# Altium integrated library SparkFun-Switches.Library.IntLib: 119 symbols (part 3 of 4)
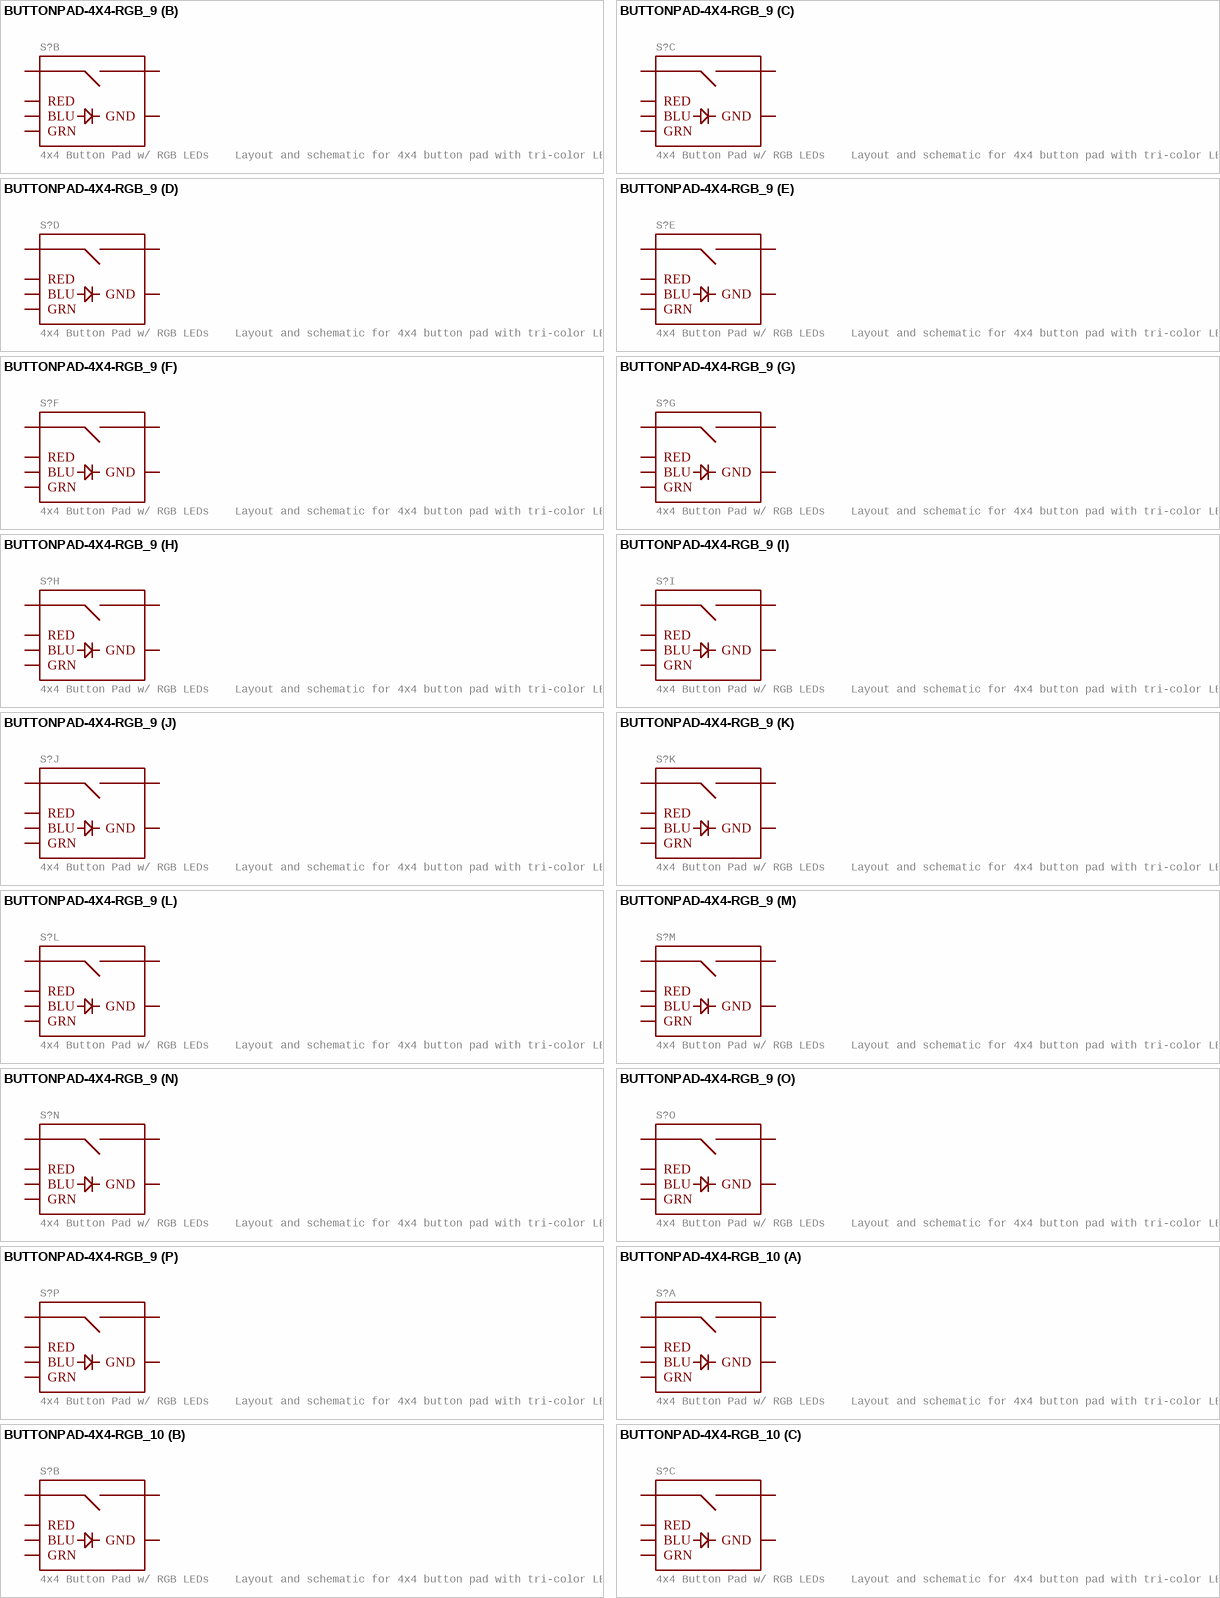
[diagram p37: symbols BUTTONPAD-4X4-RGB_9 to BUTTONPAD-4X4-RGB_10]

## BUTTONPAD-4X4-RGB_9
designator S?, comment 4x4 Button Pad w/ RGB LEDs    Layout and schematic for 4x4 button pad with tri-color LEDs under each button. For use with the 4x Button Pad 2x2 - LED Compatible and 4x Button Pad 2x2 Top Bezel.   Any RGB 5mm LED should be compatible. SparkFun Products  SparkFun Simon Says - Through-Hole Soldering Kit (KIT-10547)  Button Pad 2x2 - Breakout PCB (COM-09277)
GateName_1: G$0; SymbolName_1: BUTTONPAD-RGB; GateName_2: G$1; GateName_3: G$2; GateName_4: G$3; GateName_5: G$4; GateName_6: G$5; GateName_7: G$6; GateName_8: G$7; GateName_9: G$8; GateName_10: G$9; GateName_11: G$10; GateName_12: G$11; GateName_13: G$12; GateName_14: G$13; GateName_15: G$14; GateName_16: G$15; DeviceSetName: BUTTONPAD-4X4-RGB; PROD_ID: COMP-08481; SF_SKU: COM-07836; SymbolName_2: BUTTONPAD-RGB; SymbolName_3: BUTTONPAD-RGB; SymbolName_4: BUTTONPAD-RGB; SymbolName_5: BUTTONPAD-RGB; SymbolName_6: BUTTONPAD-RGB; SymbolName_7: BUTTONPAD-RGB; SymbolName_8: BUTTONPAD-RGB; SymbolName_9: BUTTONPAD-RGB; SymbolName_10: BUTTONPAD-RGB; SymbolName_11: BUTTONPAD-RGB; SymbolName_12: BUTTONPAD-RGB; SymbolName_13: BUTTONPAD-RGB; SymbolName_14: BUTTONPAD-RGB; SymbolName_15: BUTTONPAD-RGB; SymbolName_16: BUTTONPAD-RGB; LibraryName: SparkFun-Switches; Package: BUTTONPAD-4X4
footprint BUTTONPAD-4X4
part A pins: BLU0 BLU (io), GND0 GND (io), GRN0 GRN (io), RED0 RED (io), SIG0 SIG1 (io), SIG1 SIG2 (io)
part B pins: BLU1 BLU (io), GND1 GND (io), GRN1 GRN (io), RED1 RED (io), SIG2 SIG1 (io), SIG3 SIG2 (io)
part C pins: BLU2 BLU (io), GND2 GND (io), GRN2 GRN (io), RED2 RED (io), SIG4 SIG1 (io), SIG5 SIG2 (io)
part D pins: BLU3 BLU (io), GND3 GND (io), GRN3 GRN (io), RED3 RED (io), SIG6 SIG1 (io), SIG7 SIG2 (io)
part E pins: BLU4 BLU (io), GND4 GND (io), GRN4 GRN (io), RED4 RED (io), SIG8 SIG1 (io), SIG9 SIG2 (io)
part F pins: BLU5 BLU (io), GND5 GND (io), GRN6 GRN (io), RED5 RED (io), SIG10 SIG1 (io), SIG11 SIG2 (io)
part G pins: BLU6 BLU (io), GND6 GND (io), GRN5 GRN (io), RED6 RED (io), SIG12 SIG1 (io), SIG13 SIG2 (io)
part H pins: BLU7 BLU (io), GND7 GND (io), GRN7 GRN (io), RED7 RED (io), SIG14 SIG1 (io), SIG15 SIG2 (io)
part I pins: BLU8 BLU (io), GND8 GND (io), GRN8 GRN (io), RED8 RED (io), SIG16 SIG1 (io), SIG17 SIG2 (io)
part J pins: BLU9 BLU (io), GND9 GND (io), GRN9 GRN (io), RED9 RED (io), SIG18 SIG1 (io), SIG19 SIG2 (io)
part K pins: BLU10 BLU (io), GND10 GND (io), GRN10 GRN (io), RED10 RED (io), SIG20 SIG1 (io), SIG21 SIG2 (io)
part L pins: BLU11 BLU (io), GND11 GND (io), GRN11 GRN (io), RED11 RED (io), SIG22 SIG1 (io), SIG23 SIG2 (io)
part M pins: BLU12 BLU (io), GND12 GND (io), GRN12 GRN (io), RED12 RED (io), SIG24 SIG1 (io), SIG25 SIG2 (io)
part N pins: BLU13 BLU (io), GND13 GND (io), GRN13 GRN (io), RED13 RED (io), SIG26 SIG1 (io), SIG27 SIG2 (io)
part O pins: BLU14 BLU (io), GND14 GND (io), GRN14 GRN (io), RED14 RED (io), SIG28 SIG1 (io), SIG29 SIG2 (io)
part P pins: BLU15 BLU (io), GND15 GND (io), GRN15 GRN (io), RED15 RED (io), SIG30 SIG1 (io), SIG31 SIG2 (io)

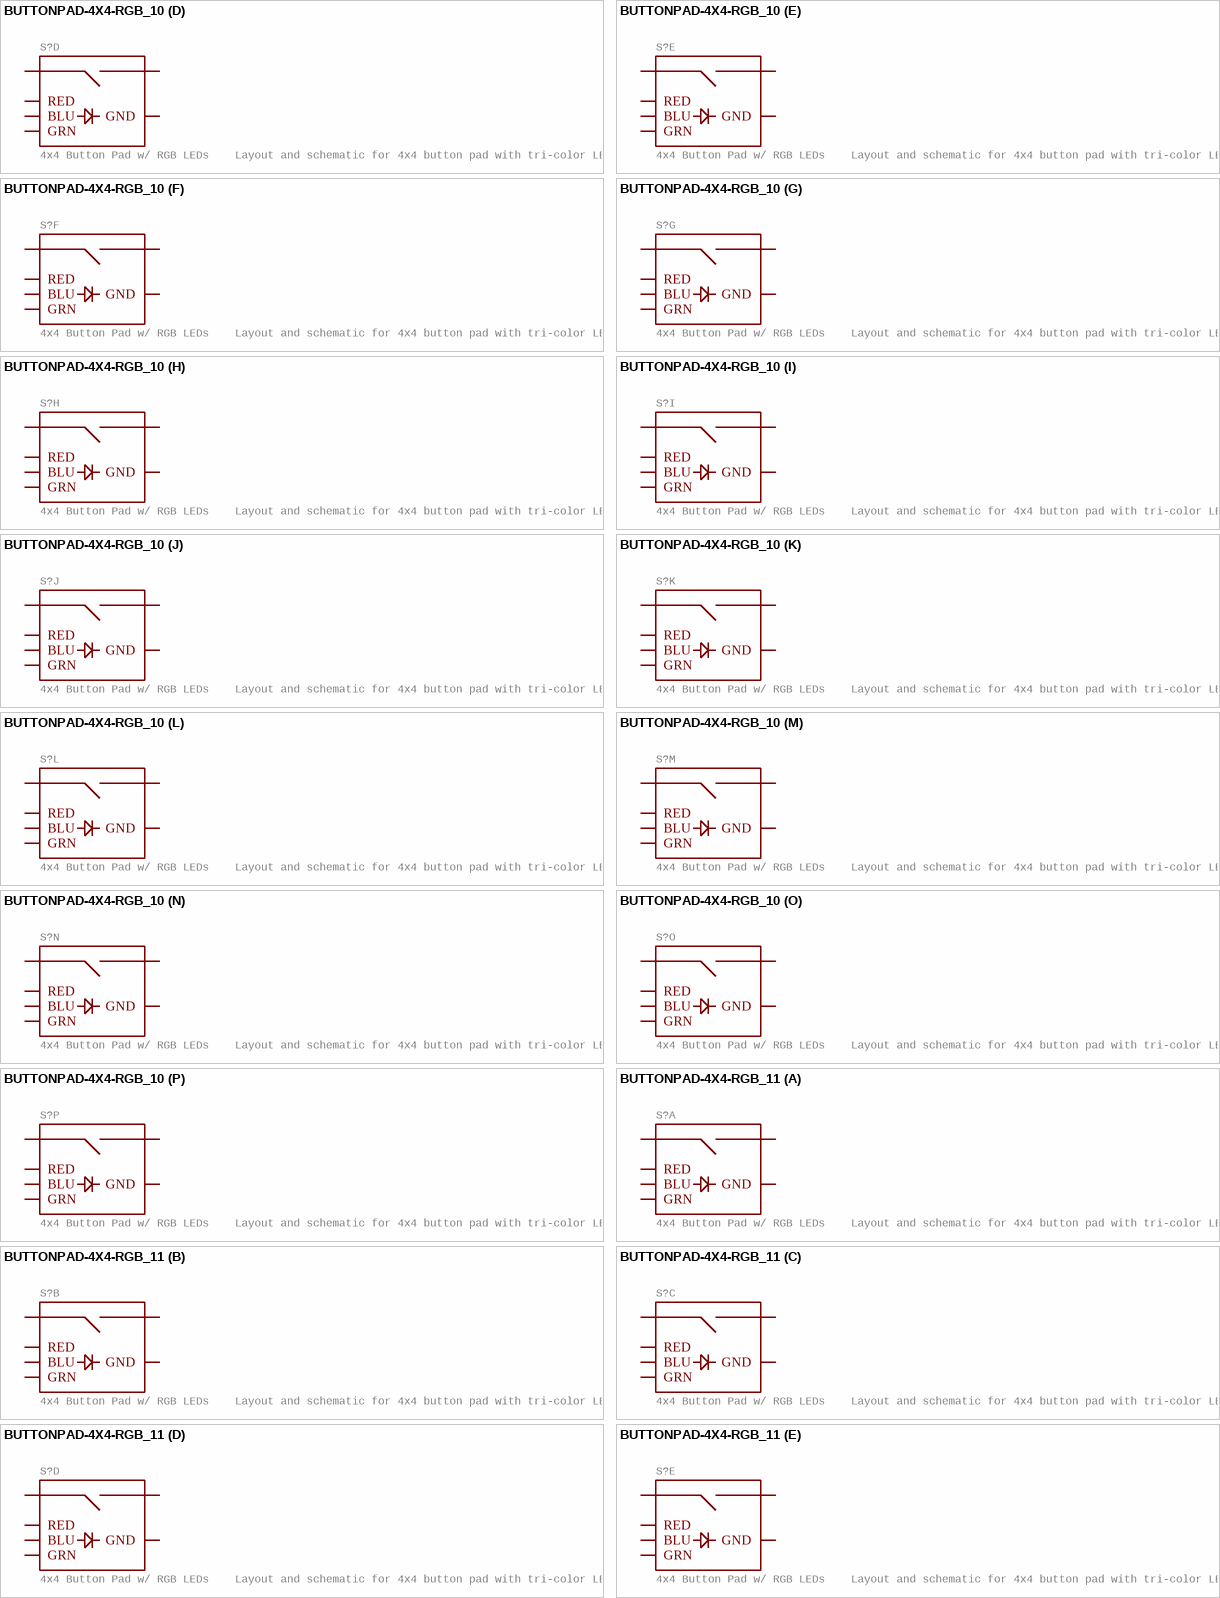
[diagram p27: symbols BUTTONPAD-4X4-RGB_10 to BUTTONPAD-4X4-RGB_11]

## BUTTONPAD-4X4-RGB_10
designator S?, comment 4x4 Button Pad w/ RGB LEDs    Layout and schematic for 4x4 button pad with tri-color LEDs under each button. For use with the 4x Button Pad 2x2 - LED Compatible and 4x Button Pad 2x2 Top Bezel.   Any RGB 5mm LED should be compatible. SparkFun Products  SparkFun Simon Says - Through-Hole Soldering Kit (KIT-10547)  Button Pad 2x2 - Breakout PCB (COM-09277)
GateName_1: G$0; SymbolName_1: BUTTONPAD-RGB; GateName_2: G$1; GateName_3: G$2; GateName_4: G$3; GateName_5: G$4; GateName_6: G$5; GateName_7: G$6; GateName_8: G$7; GateName_9: G$8; GateName_10: G$9; GateName_11: G$10; GateName_12: G$11; GateName_13: G$12; GateName_14: G$13; GateName_15: G$14; GateName_16: G$15; DeviceSetName: BUTTONPAD-4X4-RGB; PROD_ID: COMP-08481; SF_SKU: COM-07836; SymbolName_2: BUTTONPAD-RGB; SymbolName_3: BUTTONPAD-RGB; SymbolName_4: BUTTONPAD-RGB; SymbolName_5: BUTTONPAD-RGB; SymbolName_6: BUTTONPAD-RGB; SymbolName_7: BUTTONPAD-RGB; SymbolName_8: BUTTONPAD-RGB; SymbolName_9: BUTTONPAD-RGB; SymbolName_10: BUTTONPAD-RGB; SymbolName_11: BUTTONPAD-RGB; SymbolName_12: BUTTONPAD-RGB; SymbolName_13: BUTTONPAD-RGB; SymbolName_14: BUTTONPAD-RGB; SymbolName_15: BUTTONPAD-RGB; SymbolName_16: BUTTONPAD-RGB; LibraryName: SparkFun-Switches; Package: BUTTONPAD-4X4
footprint BUTTONPAD-4X4
part A pins: BLU0 BLU (io), GND0 GND (io), GRN0 GRN (io), RED0 RED (io), SIG0 SIG1 (io), SIG1 SIG2 (io)
part B pins: BLU1 BLU (io), GND1 GND (io), GRN1 GRN (io), RED1 RED (io), SIG2 SIG1 (io), SIG3 SIG2 (io)
part C pins: BLU2 BLU (io), GND2 GND (io), GRN2 GRN (io), RED2 RED (io), SIG4 SIG1 (io), SIG5 SIG2 (io)
part D pins: BLU3 BLU (io), GND3 GND (io), GRN3 GRN (io), RED3 RED (io), SIG6 SIG1 (io), SIG7 SIG2 (io)
part E pins: BLU4 BLU (io), GND4 GND (io), GRN4 GRN (io), RED4 RED (io), SIG8 SIG1 (io), SIG9 SIG2 (io)
part F pins: BLU5 BLU (io), GND5 GND (io), GRN6 GRN (io), RED5 RED (io), SIG10 SIG1 (io), SIG11 SIG2 (io)
part G pins: BLU6 BLU (io), GND6 GND (io), GRN5 GRN (io), RED6 RED (io), SIG12 SIG1 (io), SIG13 SIG2 (io)
part H pins: BLU7 BLU (io), GND7 GND (io), GRN7 GRN (io), RED7 RED (io), SIG14 SIG1 (io), SIG15 SIG2 (io)
part I pins: BLU8 BLU (io), GND8 GND (io), GRN8 GRN (io), RED8 RED (io), SIG16 SIG1 (io), SIG17 SIG2 (io)
part J pins: BLU9 BLU (io), GND9 GND (io), GRN9 GRN (io), RED9 RED (io), SIG18 SIG1 (io), SIG19 SIG2 (io)
part K pins: BLU10 BLU (io), GND10 GND (io), GRN10 GRN (io), RED10 RED (io), SIG20 SIG1 (io), SIG21 SIG2 (io)
part L pins: BLU11 BLU (io), GND11 GND (io), GRN11 GRN (io), RED11 RED (io), SIG22 SIG1 (io), SIG23 SIG2 (io)
part M pins: BLU12 BLU (io), GND12 GND (io), GRN12 GRN (io), RED12 RED (io), SIG24 SIG1 (io), SIG25 SIG2 (io)
part N pins: BLU13 BLU (io), GND13 GND (io), GRN13 GRN (io), RED13 RED (io), SIG26 SIG1 (io), SIG27 SIG2 (io)
part O pins: BLU14 BLU (io), GND14 GND (io), GRN14 GRN (io), RED14 RED (io), SIG28 SIG1 (io), SIG29 SIG2 (io)
part P pins: BLU15 BLU (io), GND15 GND (io), GRN15 GRN (io), RED15 RED (io), SIG30 SIG1 (io), SIG31 SIG2 (io)

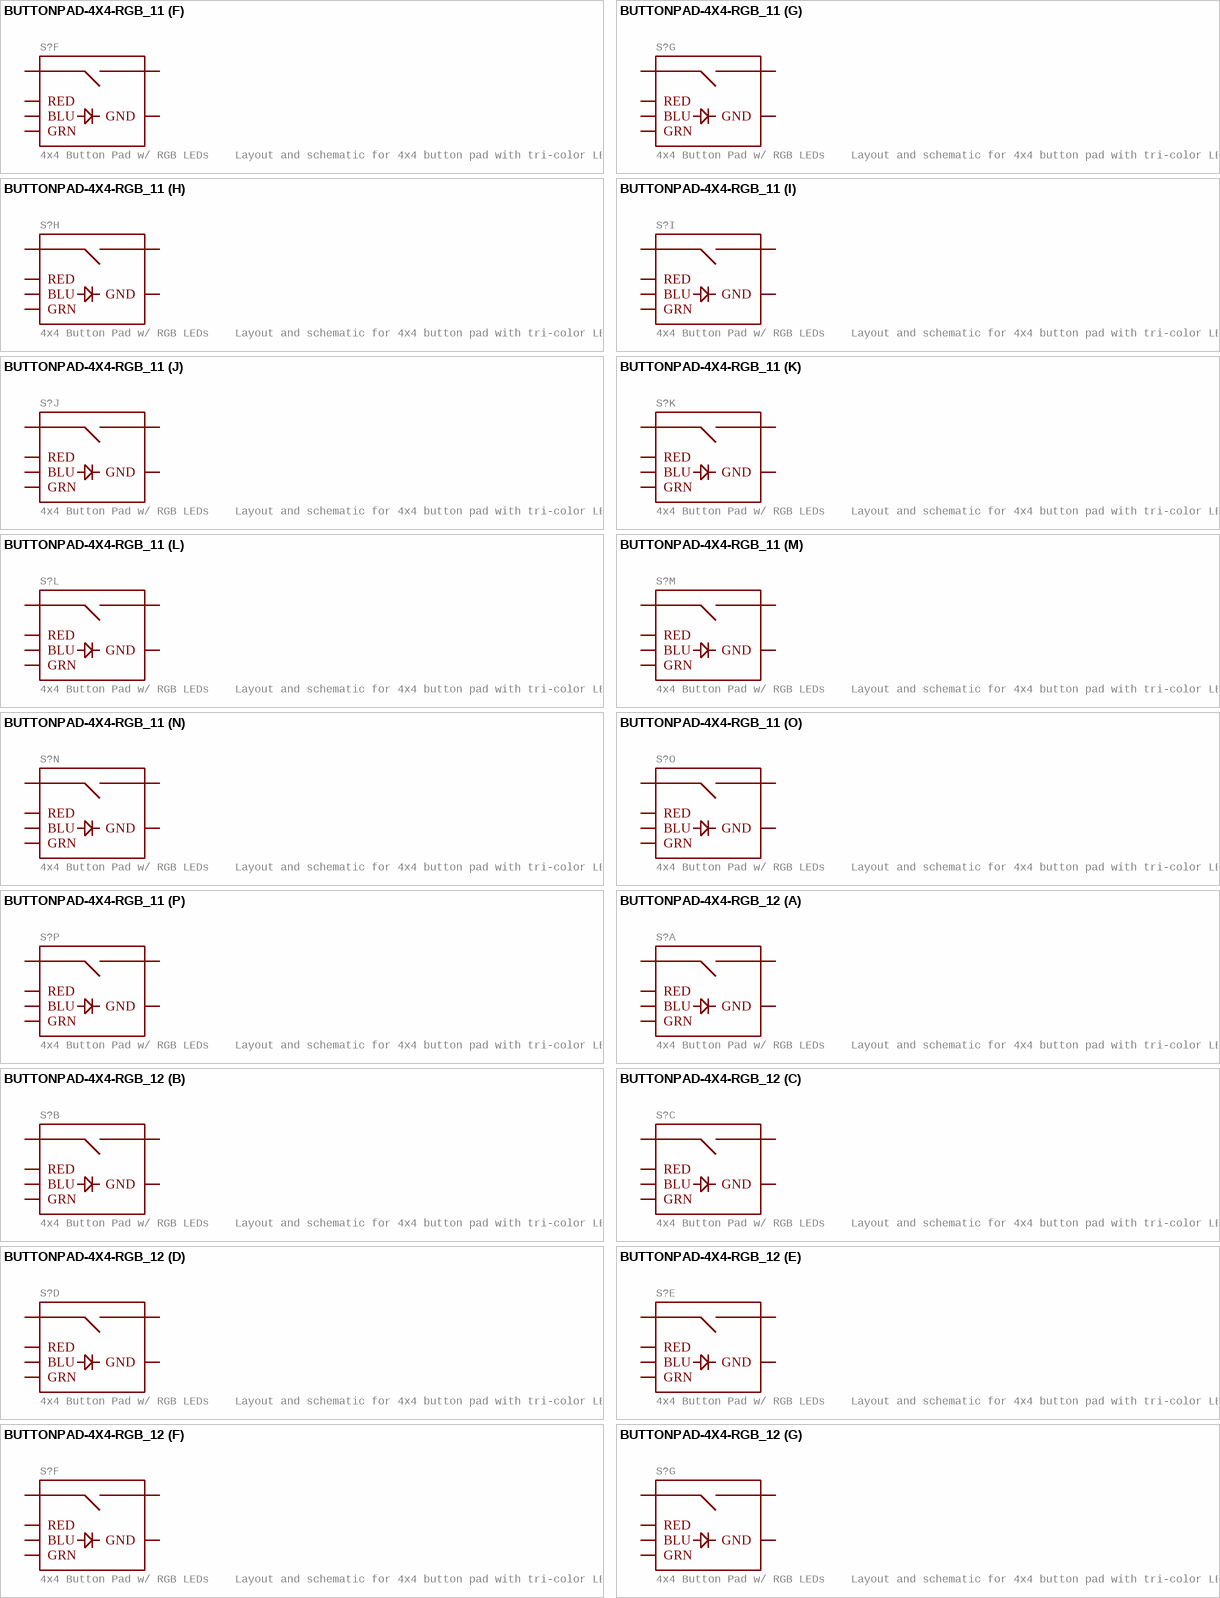
[diagram p28: symbols BUTTONPAD-4X4-RGB_11 to BUTTONPAD-4X4-RGB_12]

## BUTTONPAD-4X4-RGB_11
designator S?, comment 4x4 Button Pad w/ RGB LEDs    Layout and schematic for 4x4 button pad with tri-color LEDs under each button. For use with the 4x Button Pad 2x2 - LED Compatible and 4x Button Pad 2x2 Top Bezel.   Any RGB 5mm LED should be compatible. SparkFun Products  SparkFun Simon Says - Through-Hole Soldering Kit (KIT-10547)  Button Pad 2x2 - Breakout PCB (COM-09277)
GateName_1: G$0; SymbolName_1: BUTTONPAD-RGB; GateName_2: G$1; GateName_3: G$2; GateName_4: G$3; GateName_5: G$4; GateName_6: G$5; GateName_7: G$6; GateName_8: G$7; GateName_9: G$8; GateName_10: G$9; GateName_11: G$10; GateName_12: G$11; GateName_13: G$12; GateName_14: G$13; GateName_15: G$14; GateName_16: G$15; DeviceSetName: BUTTONPAD-4X4-RGB; PROD_ID: COMP-08481; SF_SKU: COM-07836; SymbolName_2: BUTTONPAD-RGB; SymbolName_3: BUTTONPAD-RGB; SymbolName_4: BUTTONPAD-RGB; SymbolName_5: BUTTONPAD-RGB; SymbolName_6: BUTTONPAD-RGB; SymbolName_7: BUTTONPAD-RGB; SymbolName_8: BUTTONPAD-RGB; SymbolName_9: BUTTONPAD-RGB; SymbolName_10: BUTTONPAD-RGB; SymbolName_11: BUTTONPAD-RGB; SymbolName_12: BUTTONPAD-RGB; SymbolName_13: BUTTONPAD-RGB; SymbolName_14: BUTTONPAD-RGB; SymbolName_15: BUTTONPAD-RGB; SymbolName_16: BUTTONPAD-RGB; LibraryName: SparkFun-Switches; Package: BUTTONPAD-4X4
footprint BUTTONPAD-4X4
part A pins: BLU0 BLU (io), GND0 GND (io), GRN0 GRN (io), RED0 RED (io), SIG0 SIG1 (io), SIG1 SIG2 (io)
part B pins: BLU1 BLU (io), GND1 GND (io), GRN1 GRN (io), RED1 RED (io), SIG2 SIG1 (io), SIG3 SIG2 (io)
part C pins: BLU2 BLU (io), GND2 GND (io), GRN2 GRN (io), RED2 RED (io), SIG4 SIG1 (io), SIG5 SIG2 (io)
part D pins: BLU3 BLU (io), GND3 GND (io), GRN3 GRN (io), RED3 RED (io), SIG6 SIG1 (io), SIG7 SIG2 (io)
part E pins: BLU4 BLU (io), GND4 GND (io), GRN4 GRN (io), RED4 RED (io), SIG8 SIG1 (io), SIG9 SIG2 (io)
part F pins: BLU5 BLU (io), GND5 GND (io), GRN6 GRN (io), RED5 RED (io), SIG10 SIG1 (io), SIG11 SIG2 (io)
part G pins: BLU6 BLU (io), GND6 GND (io), GRN5 GRN (io), RED6 RED (io), SIG12 SIG1 (io), SIG13 SIG2 (io)
part H pins: BLU7 BLU (io), GND7 GND (io), GRN7 GRN (io), RED7 RED (io), SIG14 SIG1 (io), SIG15 SIG2 (io)
part I pins: BLU8 BLU (io), GND8 GND (io), GRN8 GRN (io), RED8 RED (io), SIG16 SIG1 (io), SIG17 SIG2 (io)
part J pins: BLU9 BLU (io), GND9 GND (io), GRN9 GRN (io), RED9 RED (io), SIG18 SIG1 (io), SIG19 SIG2 (io)
part K pins: BLU10 BLU (io), GND10 GND (io), GRN10 GRN (io), RED10 RED (io), SIG20 SIG1 (io), SIG21 SIG2 (io)
part L pins: BLU11 BLU (io), GND11 GND (io), GRN11 GRN (io), RED11 RED (io), SIG22 SIG1 (io), SIG23 SIG2 (io)
part M pins: BLU12 BLU (io), GND12 GND (io), GRN12 GRN (io), RED12 RED (io), SIG24 SIG1 (io), SIG25 SIG2 (io)
part N pins: BLU13 BLU (io), GND13 GND (io), GRN13 GRN (io), RED13 RED (io), SIG26 SIG1 (io), SIG27 SIG2 (io)
part O pins: BLU14 BLU (io), GND14 GND (io), GRN14 GRN (io), RED14 RED (io), SIG28 SIG1 (io), SIG29 SIG2 (io)
part P pins: BLU15 BLU (io), GND15 GND (io), GRN15 GRN (io), RED15 RED (io), SIG30 SIG1 (io), SIG31 SIG2 (io)

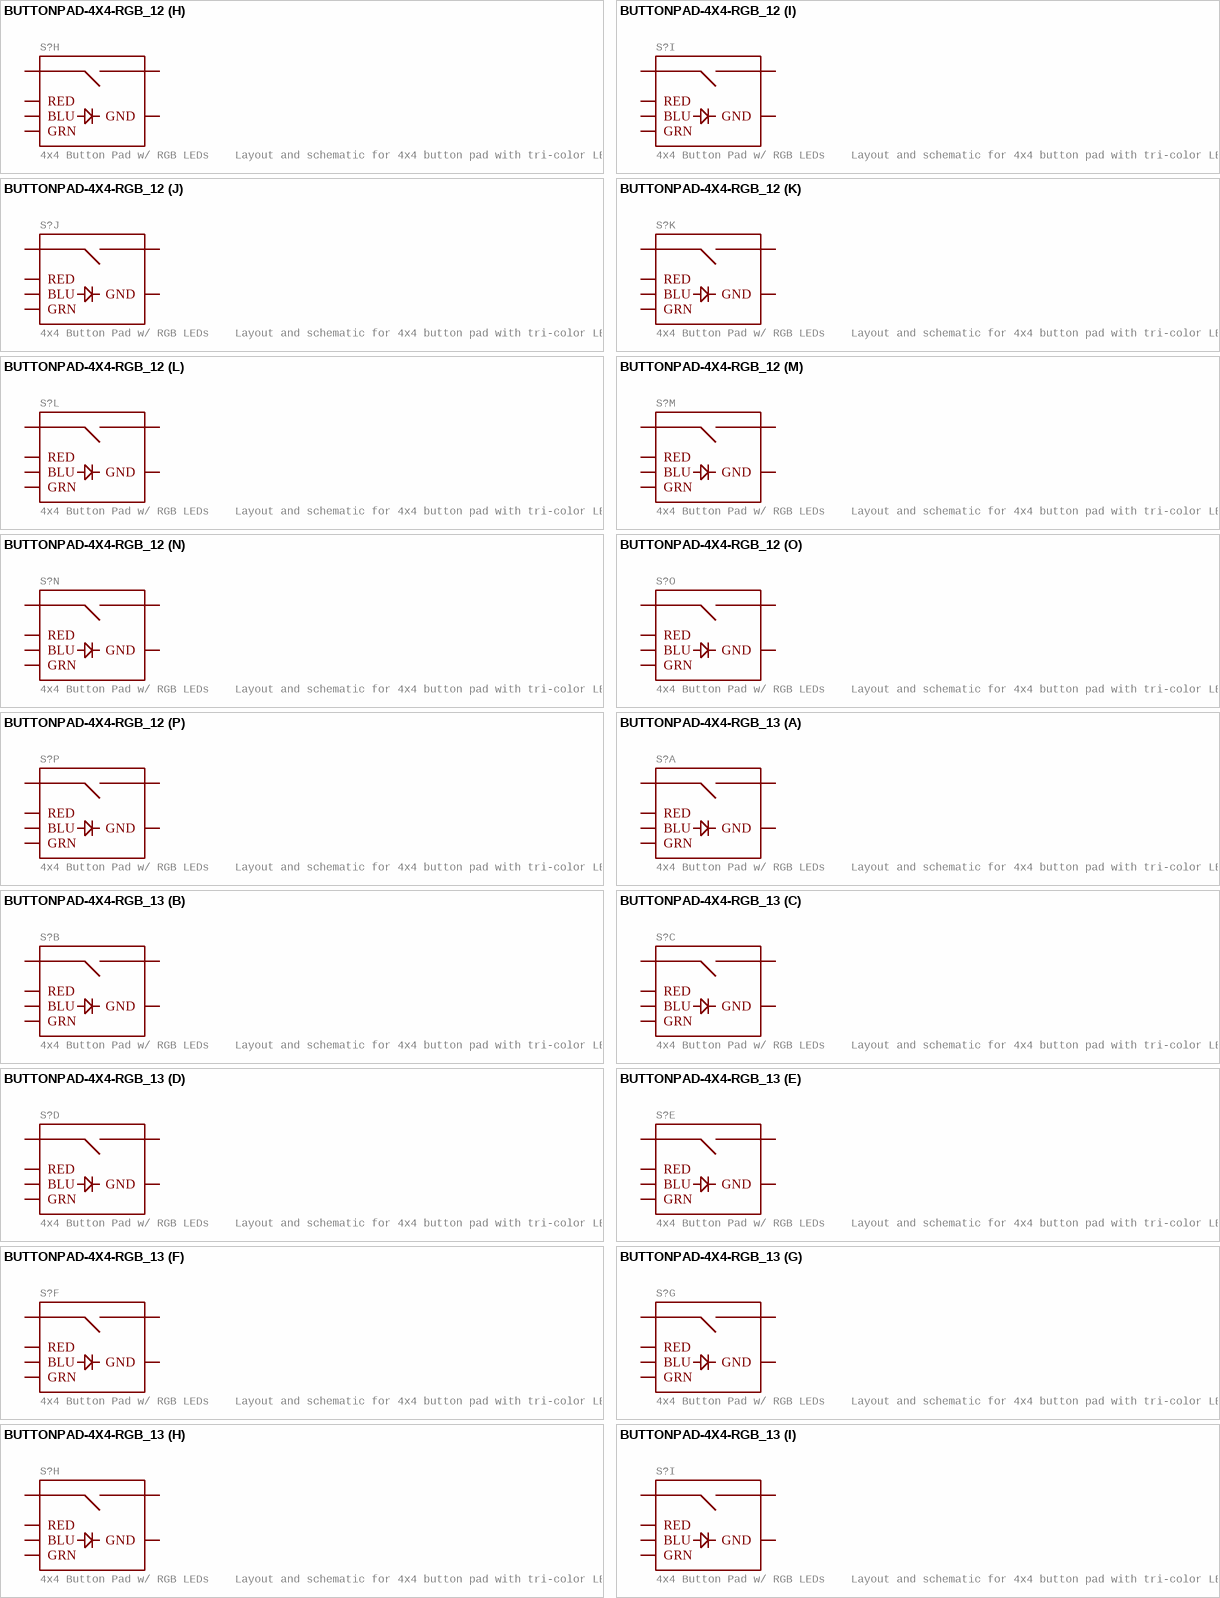
[diagram p29: symbols BUTTONPAD-4X4-RGB_12 to BUTTONPAD-4X4-RGB_13]

## BUTTONPAD-4X4-RGB_12
designator S?, comment 4x4 Button Pad w/ RGB LEDs    Layout and schematic for 4x4 button pad with tri-color LEDs under each button. For use with the 4x Button Pad 2x2 - LED Compatible and 4x Button Pad 2x2 Top Bezel.   Any RGB 5mm LED should be compatible. SparkFun Products  SparkFun Simon Says - Through-Hole Soldering Kit (KIT-10547)  Button Pad 2x2 - Breakout PCB (COM-09277)
GateName_1: G$0; SymbolName_1: BUTTONPAD-RGB; GateName_2: G$1; GateName_3: G$2; GateName_4: G$3; GateName_5: G$4; GateName_6: G$5; GateName_7: G$6; GateName_8: G$7; GateName_9: G$8; GateName_10: G$9; GateName_11: G$10; GateName_12: G$11; GateName_13: G$12; GateName_14: G$13; GateName_15: G$14; GateName_16: G$15; DeviceSetName: BUTTONPAD-4X4-RGB; PROD_ID: COMP-08481; SF_SKU: COM-07836; SymbolName_2: BUTTONPAD-RGB; SymbolName_3: BUTTONPAD-RGB; SymbolName_4: BUTTONPAD-RGB; SymbolName_5: BUTTONPAD-RGB; SymbolName_6: BUTTONPAD-RGB; SymbolName_7: BUTTONPAD-RGB; SymbolName_8: BUTTONPAD-RGB; SymbolName_9: BUTTONPAD-RGB; SymbolName_10: BUTTONPAD-RGB; SymbolName_11: BUTTONPAD-RGB; SymbolName_12: BUTTONPAD-RGB; SymbolName_13: BUTTONPAD-RGB; SymbolName_14: BUTTONPAD-RGB; SymbolName_15: BUTTONPAD-RGB; SymbolName_16: BUTTONPAD-RGB; LibraryName: SparkFun-Switches; Package: BUTTONPAD-4X4
footprint BUTTONPAD-4X4
part A pins: BLU0 BLU (io), GND0 GND (io), GRN0 GRN (io), RED0 RED (io), SIG0 SIG1 (io), SIG1 SIG2 (io)
part B pins: BLU1 BLU (io), GND1 GND (io), GRN1 GRN (io), RED1 RED (io), SIG2 SIG1 (io), SIG3 SIG2 (io)
part C pins: BLU2 BLU (io), GND2 GND (io), GRN2 GRN (io), RED2 RED (io), SIG4 SIG1 (io), SIG5 SIG2 (io)
part D pins: BLU3 BLU (io), GND3 GND (io), GRN3 GRN (io), RED3 RED (io), SIG6 SIG1 (io), SIG7 SIG2 (io)
part E pins: BLU4 BLU (io), GND4 GND (io), GRN4 GRN (io), RED4 RED (io), SIG8 SIG1 (io), SIG9 SIG2 (io)
part F pins: BLU5 BLU (io), GND5 GND (io), GRN6 GRN (io), RED5 RED (io), SIG10 SIG1 (io), SIG11 SIG2 (io)
part G pins: BLU6 BLU (io), GND6 GND (io), GRN5 GRN (io), RED6 RED (io), SIG12 SIG1 (io), SIG13 SIG2 (io)
part H pins: BLU7 BLU (io), GND7 GND (io), GRN7 GRN (io), RED7 RED (io), SIG14 SIG1 (io), SIG15 SIG2 (io)
part I pins: BLU8 BLU (io), GND8 GND (io), GRN8 GRN (io), RED8 RED (io), SIG16 SIG1 (io), SIG17 SIG2 (io)
part J pins: BLU9 BLU (io), GND9 GND (io), GRN9 GRN (io), RED9 RED (io), SIG18 SIG1 (io), SIG19 SIG2 (io)
part K pins: BLU10 BLU (io), GND10 GND (io), GRN10 GRN (io), RED10 RED (io), SIG20 SIG1 (io), SIG21 SIG2 (io)
part L pins: BLU11 BLU (io), GND11 GND (io), GRN11 GRN (io), RED11 RED (io), SIG22 SIG1 (io), SIG23 SIG2 (io)
part M pins: BLU12 BLU (io), GND12 GND (io), GRN12 GRN (io), RED12 RED (io), SIG24 SIG1 (io), SIG25 SIG2 (io)
part N pins: BLU13 BLU (io), GND13 GND (io), GRN13 GRN (io), RED13 RED (io), SIG26 SIG1 (io), SIG27 SIG2 (io)
part O pins: BLU14 BLU (io), GND14 GND (io), GRN14 GRN (io), RED14 RED (io), SIG28 SIG1 (io), SIG29 SIG2 (io)
part P pins: BLU15 BLU (io), GND15 GND (io), GRN15 GRN (io), RED15 RED (io), SIG30 SIG1 (io), SIG31 SIG2 (io)

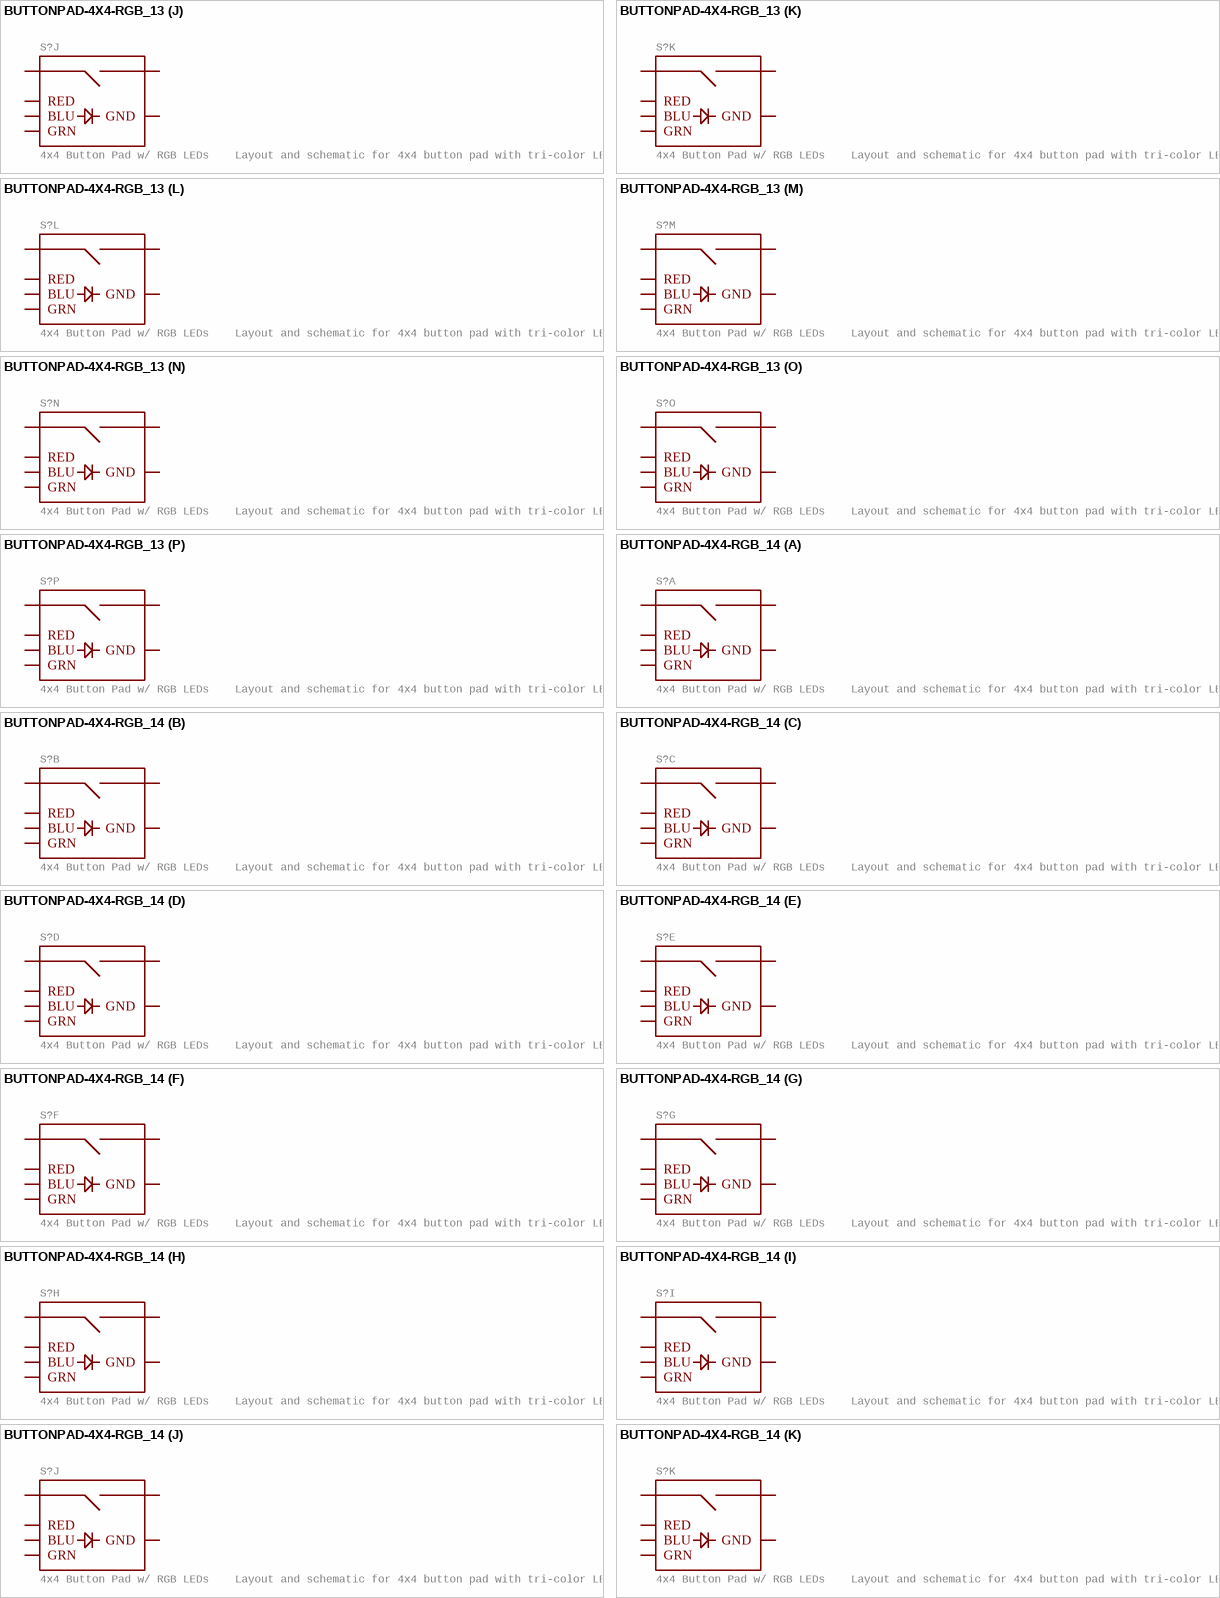
[diagram p30: symbols BUTTONPAD-4X4-RGB_13 to BUTTONPAD-4X4-RGB_14]

## BUTTONPAD-4X4-RGB_13
designator S?, comment 4x4 Button Pad w/ RGB LEDs    Layout and schematic for 4x4 button pad with tri-color LEDs under each button. For use with the 4x Button Pad 2x2 - LED Compatible and 4x Button Pad 2x2 Top Bezel.   Any RGB 5mm LED should be compatible. SparkFun Products  SparkFun Simon Says - Through-Hole Soldering Kit (KIT-10547)  Button Pad 2x2 - Breakout PCB (COM-09277)
GateName_1: G$0; SymbolName_1: BUTTONPAD-RGB; GateName_2: G$1; GateName_3: G$2; GateName_4: G$3; GateName_5: G$4; GateName_6: G$5; GateName_7: G$6; GateName_8: G$7; GateName_9: G$8; GateName_10: G$9; GateName_11: G$10; GateName_12: G$11; GateName_13: G$12; GateName_14: G$13; GateName_15: G$14; GateName_16: G$15; DeviceSetName: BUTTONPAD-4X4-RGB; PROD_ID: COMP-08481; SF_SKU: COM-07836; SymbolName_2: BUTTONPAD-RGB; SymbolName_3: BUTTONPAD-RGB; SymbolName_4: BUTTONPAD-RGB; SymbolName_5: BUTTONPAD-RGB; SymbolName_6: BUTTONPAD-RGB; SymbolName_7: BUTTONPAD-RGB; SymbolName_8: BUTTONPAD-RGB; SymbolName_9: BUTTONPAD-RGB; SymbolName_10: BUTTONPAD-RGB; SymbolName_11: BUTTONPAD-RGB; SymbolName_12: BUTTONPAD-RGB; SymbolName_13: BUTTONPAD-RGB; SymbolName_14: BUTTONPAD-RGB; SymbolName_15: BUTTONPAD-RGB; SymbolName_16: BUTTONPAD-RGB; LibraryName: SparkFun-Switches; Package: BUTTONPAD-4X4
footprint BUTTONPAD-4X4
part A pins: BLU0 BLU (io), GND0 GND (io), GRN0 GRN (io), RED0 RED (io), SIG0 SIG1 (io), SIG1 SIG2 (io)
part B pins: BLU1 BLU (io), GND1 GND (io), GRN1 GRN (io), RED1 RED (io), SIG2 SIG1 (io), SIG3 SIG2 (io)
part C pins: BLU2 BLU (io), GND2 GND (io), GRN2 GRN (io), RED2 RED (io), SIG4 SIG1 (io), SIG5 SIG2 (io)
part D pins: BLU3 BLU (io), GND3 GND (io), GRN3 GRN (io), RED3 RED (io), SIG6 SIG1 (io), SIG7 SIG2 (io)
part E pins: BLU4 BLU (io), GND4 GND (io), GRN4 GRN (io), RED4 RED (io), SIG8 SIG1 (io), SIG9 SIG2 (io)
part F pins: BLU5 BLU (io), GND5 GND (io), GRN6 GRN (io), RED5 RED (io), SIG10 SIG1 (io), SIG11 SIG2 (io)
part G pins: BLU6 BLU (io), GND6 GND (io), GRN5 GRN (io), RED6 RED (io), SIG12 SIG1 (io), SIG13 SIG2 (io)
part H pins: BLU7 BLU (io), GND7 GND (io), GRN7 GRN (io), RED7 RED (io), SIG14 SIG1 (io), SIG15 SIG2 (io)
part I pins: BLU8 BLU (io), GND8 GND (io), GRN8 GRN (io), RED8 RED (io), SIG16 SIG1 (io), SIG17 SIG2 (io)
part J pins: BLU9 BLU (io), GND9 GND (io), GRN9 GRN (io), RED9 RED (io), SIG18 SIG1 (io), SIG19 SIG2 (io)
part K pins: BLU10 BLU (io), GND10 GND (io), GRN10 GRN (io), RED10 RED (io), SIG20 SIG1 (io), SIG21 SIG2 (io)
part L pins: BLU11 BLU (io), GND11 GND (io), GRN11 GRN (io), RED11 RED (io), SIG22 SIG1 (io), SIG23 SIG2 (io)
part M pins: BLU12 BLU (io), GND12 GND (io), GRN12 GRN (io), RED12 RED (io), SIG24 SIG1 (io), SIG25 SIG2 (io)
part N pins: BLU13 BLU (io), GND13 GND (io), GRN13 GRN (io), RED13 RED (io), SIG26 SIG1 (io), SIG27 SIG2 (io)
part O pins: BLU14 BLU (io), GND14 GND (io), GRN14 GRN (io), RED14 RED (io), SIG28 SIG1 (io), SIG29 SIG2 (io)
part P pins: BLU15 BLU (io), GND15 GND (io), GRN15 GRN (io), RED15 RED (io), SIG30 SIG1 (io), SIG31 SIG2 (io)

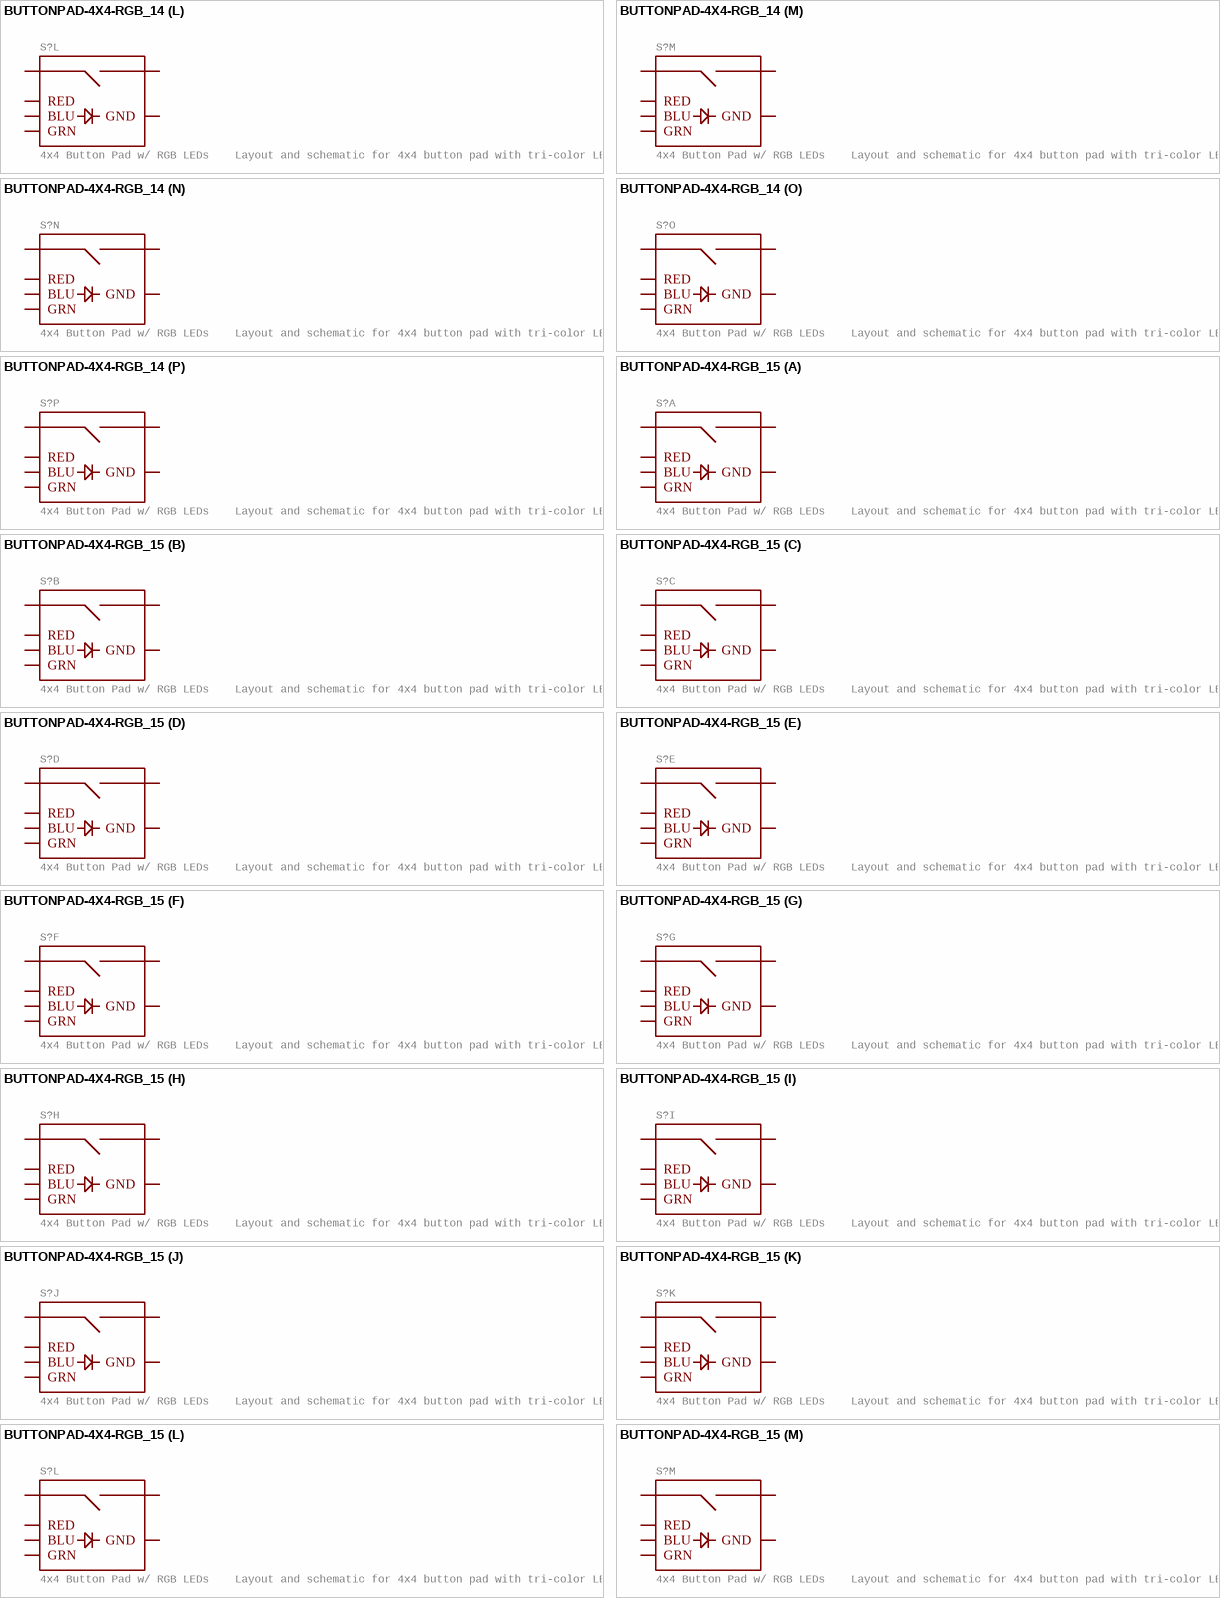
[diagram p31: symbols BUTTONPAD-4X4-RGB_14 to BUTTONPAD-4X4-RGB_15]

## BUTTONPAD-4X4-RGB_14
designator S?, comment 4x4 Button Pad w/ RGB LEDs    Layout and schematic for 4x4 button pad with tri-color LEDs under each button. For use with the 4x Button Pad 2x2 - LED Compatible and 4x Button Pad 2x2 Top Bezel.   Any RGB 5mm LED should be compatible. SparkFun Products  SparkFun Simon Says - Through-Hole Soldering Kit (KIT-10547)  Button Pad 2x2 - Breakout PCB (COM-09277)
GateName_1: G$0; SymbolName_1: BUTTONPAD-RGB; GateName_2: G$1; GateName_3: G$2; GateName_4: G$3; GateName_5: G$4; GateName_6: G$5; GateName_7: G$6; GateName_8: G$7; GateName_9: G$8; GateName_10: G$9; GateName_11: G$10; GateName_12: G$11; GateName_13: G$12; GateName_14: G$13; GateName_15: G$14; GateName_16: G$15; DeviceSetName: BUTTONPAD-4X4-RGB; PROD_ID: COMP-08481; SF_SKU: COM-07836; SymbolName_2: BUTTONPAD-RGB; SymbolName_3: BUTTONPAD-RGB; SymbolName_4: BUTTONPAD-RGB; SymbolName_5: BUTTONPAD-RGB; SymbolName_6: BUTTONPAD-RGB; SymbolName_7: BUTTONPAD-RGB; SymbolName_8: BUTTONPAD-RGB; SymbolName_9: BUTTONPAD-RGB; SymbolName_10: BUTTONPAD-RGB; SymbolName_11: BUTTONPAD-RGB; SymbolName_12: BUTTONPAD-RGB; SymbolName_13: BUTTONPAD-RGB; SymbolName_14: BUTTONPAD-RGB; SymbolName_15: BUTTONPAD-RGB; SymbolName_16: BUTTONPAD-RGB; LibraryName: SparkFun-Switches; Package: BUTTONPAD-4X4
footprint BUTTONPAD-4X4
part A pins: BLU0 BLU (io), GND0 GND (io), GRN0 GRN (io), RED0 RED (io), SIG0 SIG1 (io), SIG1 SIG2 (io)
part B pins: BLU1 BLU (io), GND1 GND (io), GRN1 GRN (io), RED1 RED (io), SIG2 SIG1 (io), SIG3 SIG2 (io)
part C pins: BLU2 BLU (io), GND2 GND (io), GRN2 GRN (io), RED2 RED (io), SIG4 SIG1 (io), SIG5 SIG2 (io)
part D pins: BLU3 BLU (io), GND3 GND (io), GRN3 GRN (io), RED3 RED (io), SIG6 SIG1 (io), SIG7 SIG2 (io)
part E pins: BLU4 BLU (io), GND4 GND (io), GRN4 GRN (io), RED4 RED (io), SIG8 SIG1 (io), SIG9 SIG2 (io)
part F pins: BLU5 BLU (io), GND5 GND (io), GRN6 GRN (io), RED5 RED (io), SIG10 SIG1 (io), SIG11 SIG2 (io)
part G pins: BLU6 BLU (io), GND6 GND (io), GRN5 GRN (io), RED6 RED (io), SIG12 SIG1 (io), SIG13 SIG2 (io)
part H pins: BLU7 BLU (io), GND7 GND (io), GRN7 GRN (io), RED7 RED (io), SIG14 SIG1 (io), SIG15 SIG2 (io)
part I pins: BLU8 BLU (io), GND8 GND (io), GRN8 GRN (io), RED8 RED (io), SIG16 SIG1 (io), SIG17 SIG2 (io)
part J pins: BLU9 BLU (io), GND9 GND (io), GRN9 GRN (io), RED9 RED (io), SIG18 SIG1 (io), SIG19 SIG2 (io)
part K pins: BLU10 BLU (io), GND10 GND (io), GRN10 GRN (io), RED10 RED (io), SIG20 SIG1 (io), SIG21 SIG2 (io)
part L pins: BLU11 BLU (io), GND11 GND (io), GRN11 GRN (io), RED11 RED (io), SIG22 SIG1 (io), SIG23 SIG2 (io)
part M pins: BLU12 BLU (io), GND12 GND (io), GRN12 GRN (io), RED12 RED (io), SIG24 SIG1 (io), SIG25 SIG2 (io)
part N pins: BLU13 BLU (io), GND13 GND (io), GRN13 GRN (io), RED13 RED (io), SIG26 SIG1 (io), SIG27 SIG2 (io)
part O pins: BLU14 BLU (io), GND14 GND (io), GRN14 GRN (io), RED14 RED (io), SIG28 SIG1 (io), SIG29 SIG2 (io)
part P pins: BLU15 BLU (io), GND15 GND (io), GRN15 GRN (io), RED15 RED (io), SIG30 SIG1 (io), SIG31 SIG2 (io)

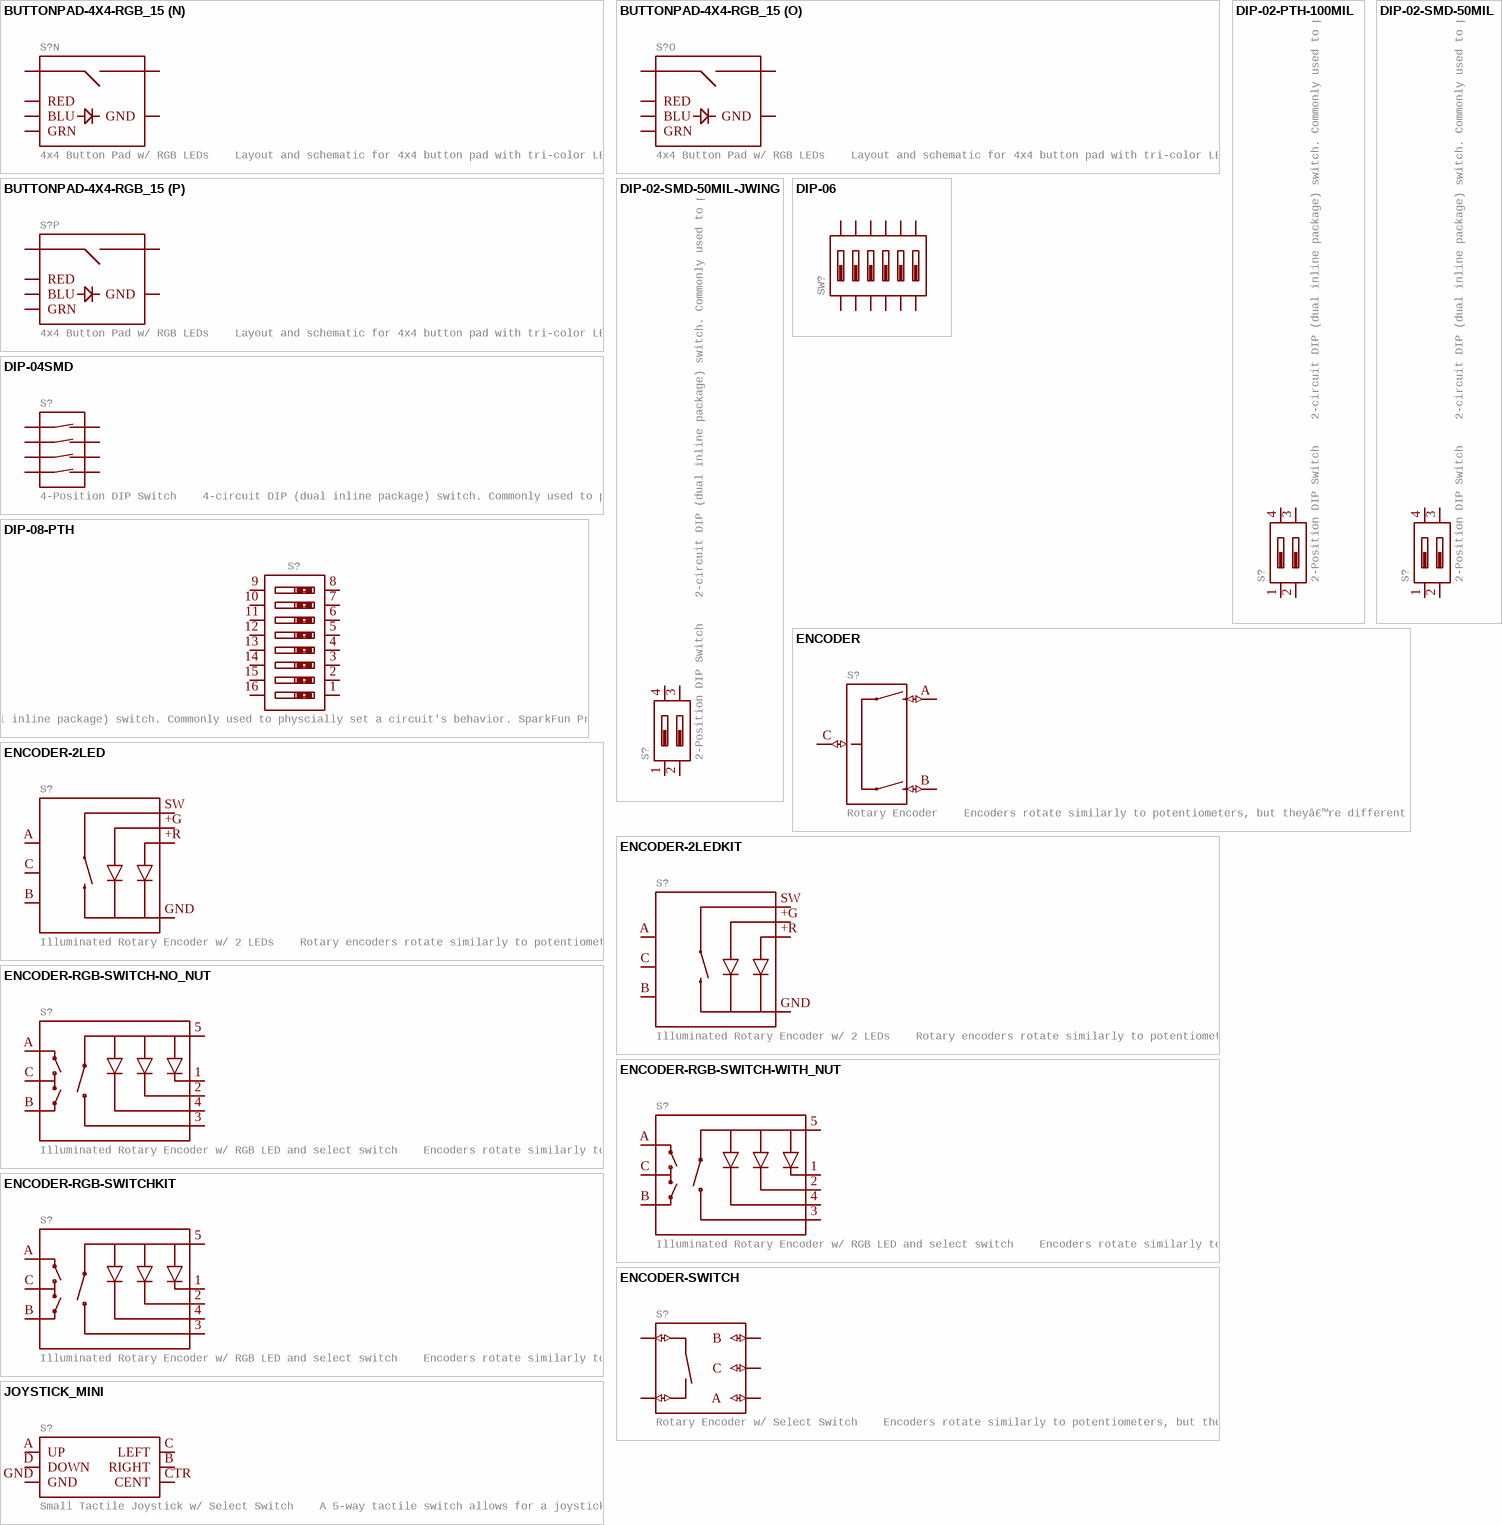
[diagram p32: symbols BUTTONPAD-4X4-RGB_15 to JOYSTICK_MINI]

## BUTTONPAD-4X4-RGB_15
designator S?, comment 4x4 Button Pad w/ RGB LEDs    Layout and schematic for 4x4 button pad with tri-color LEDs under each button. For use with the 4x Button Pad 2x2 - LED Compatible and 4x Button Pad 2x2 Top Bezel.   Any RGB 5mm LED should be compatible. SparkFun Products  SparkFun Simon Says - Through-Hole Soldering Kit (KIT-10547)  Button Pad 2x2 - Breakout PCB (COM-09277)
GateName_1: G$0; SymbolName_1: BUTTONPAD-RGB; GateName_2: G$1; GateName_3: G$2; GateName_4: G$3; GateName_5: G$4; GateName_6: G$5; GateName_7: G$6; GateName_8: G$7; GateName_9: G$8; GateName_10: G$9; GateName_11: G$10; GateName_12: G$11; GateName_13: G$12; GateName_14: G$13; GateName_15: G$14; GateName_16: G$15; DeviceSetName: BUTTONPAD-4X4-RGB; PROD_ID: COMP-08481; SF_SKU: COM-07836; SymbolName_2: BUTTONPAD-RGB; SymbolName_3: BUTTONPAD-RGB; SymbolName_4: BUTTONPAD-RGB; SymbolName_5: BUTTONPAD-RGB; SymbolName_6: BUTTONPAD-RGB; SymbolName_7: BUTTONPAD-RGB; SymbolName_8: BUTTONPAD-RGB; SymbolName_9: BUTTONPAD-RGB; SymbolName_10: BUTTONPAD-RGB; SymbolName_11: BUTTONPAD-RGB; SymbolName_12: BUTTONPAD-RGB; SymbolName_13: BUTTONPAD-RGB; SymbolName_14: BUTTONPAD-RGB; SymbolName_15: BUTTONPAD-RGB; SymbolName_16: BUTTONPAD-RGB; LibraryName: SparkFun-Switches; Package: BUTTONPAD-4X4
footprint BUTTONPAD-4X4
part A pins: BLU0 BLU (io), GND0 GND (io), GRN0 GRN (io), RED0 RED (io), SIG0 SIG1 (io), SIG1 SIG2 (io)
part B pins: BLU1 BLU (io), GND1 GND (io), GRN1 GRN (io), RED1 RED (io), SIG2 SIG1 (io), SIG3 SIG2 (io)
part C pins: BLU2 BLU (io), GND2 GND (io), GRN2 GRN (io), RED2 RED (io), SIG4 SIG1 (io), SIG5 SIG2 (io)
part D pins: BLU3 BLU (io), GND3 GND (io), GRN3 GRN (io), RED3 RED (io), SIG6 SIG1 (io), SIG7 SIG2 (io)
part E pins: BLU4 BLU (io), GND4 GND (io), GRN4 GRN (io), RED4 RED (io), SIG8 SIG1 (io), SIG9 SIG2 (io)
part F pins: BLU5 BLU (io), GND5 GND (io), GRN6 GRN (io), RED5 RED (io), SIG10 SIG1 (io), SIG11 SIG2 (io)
part G pins: BLU6 BLU (io), GND6 GND (io), GRN5 GRN (io), RED6 RED (io), SIG12 SIG1 (io), SIG13 SIG2 (io)
part H pins: BLU7 BLU (io), GND7 GND (io), GRN7 GRN (io), RED7 RED (io), SIG14 SIG1 (io), SIG15 SIG2 (io)
part I pins: BLU8 BLU (io), GND8 GND (io), GRN8 GRN (io), RED8 RED (io), SIG16 SIG1 (io), SIG17 SIG2 (io)
part J pins: BLU9 BLU (io), GND9 GND (io), GRN9 GRN (io), RED9 RED (io), SIG18 SIG1 (io), SIG19 SIG2 (io)
part K pins: BLU10 BLU (io), GND10 GND (io), GRN10 GRN (io), RED10 RED (io), SIG20 SIG1 (io), SIG21 SIG2 (io)
part L pins: BLU11 BLU (io), GND11 GND (io), GRN11 GRN (io), RED11 RED (io), SIG22 SIG1 (io), SIG23 SIG2 (io)
part M pins: BLU12 BLU (io), GND12 GND (io), GRN12 GRN (io), RED12 RED (io), SIG24 SIG1 (io), SIG25 SIG2 (io)
part N pins: BLU13 BLU (io), GND13 GND (io), GRN13 GRN (io), RED13 RED (io), SIG26 SIG1 (io), SIG27 SIG2 (io)
part O pins: BLU14 BLU (io), GND14 GND (io), GRN14 GRN (io), RED14 RED (io), SIG28 SIG1 (io), SIG29 SIG2 (io)
part P pins: BLU15 BLU (io), GND15 GND (io), GRN15 GRN (io), RED15 RED (io), SIG30 SIG1 (io), SIG31 SIG2 (io)

## DIP-02-PTH-100MIL
designator S?, comment 2-Position DIP Switch    2-circuit DIP (dual inline package) switch. Commonly used to physcially set a circuit's behavior. Variants  PTH-100MIL - Through-hole, 0.1"-Pitch  Used on SparkFun Stepoko (ROB-13899)     SMD-50MIL-JWING - SMD (J-Wing Pads), 0.05"-Pitch  Prototype Part     SMD-50MIL - SMD, 0.05"-Pitch  Used on SparkFun Battery Babysitter (PRT-13777)
GateName_1: G$1; SymbolName_1: DIPSWITCH-02; DeviceName: -PTH-100MIL; DeviceSetName: DIP-02; PROD_ID: SWCH-12532; LibraryName: SparkFun-Switches; Package: DIPSWITCH-02-209-2LPST
footprint DIPSWITCH-02-209-2LPST
pins: 1 P$1 (io), 2 P$2 (io), 3 P$4 (io), 4 P$3 (io)

## DIP-02-SMD-50MIL
designator S?, comment 2-Position DIP Switch    2-circuit DIP (dual inline package) switch. Commonly used to physcially set a circuit's behavior. Variants  PTH-100MIL - Through-hole, 0.1"-Pitch  Used on SparkFun Stepoko (ROB-13899)     SMD-50MIL-JWING - SMD (J-Wing Pads), 0.05"-Pitch  Prototype Part     SMD-50MIL - SMD, 0.05"-Pitch  Used on SparkFun Battery Babysitter (PRT-13777)
GateName_1: G$1; SymbolName_1: DIPSWITCH-02; DeviceName: -SMD-50MIL; DeviceSetName: DIP-02; PROD_ID: SWCH-13215; LibraryName: SparkFun-Switches; Package: DIPSWITCH-02-50MIL
footprint DIPSWITCH-02-50MIL
pins: 1 P$1 (io), 2 P$2 (io), 3 P$4 (io), 4 P$3 (io)

## DIP-02-SMD-50MIL-JWING
designator S?, comment 2-Position DIP Switch    2-circuit DIP (dual inline package) switch. Commonly used to physcially set a circuit's behavior. Variants  PTH-100MIL - Through-hole, 0.1"-Pitch  Used on SparkFun Stepoko (ROB-13899)     SMD-50MIL-JWING - SMD (J-Wing Pads), 0.05"-Pitch  Prototype Part     SMD-50MIL - SMD, 0.05"-Pitch  Used on SparkFun Battery Babysitter (PRT-13777)
GateName_1: G$1; SymbolName_1: DIPSWITCH-02; DeviceName: -SMD-50MIL-JWING; DeviceSetName: DIP-02; PROD_ID: SWCH-12372; LibraryName: SparkFun-Switches; Package: DIPSWITCH-02-CHS-02A
footprint DIPSWITCH-02-CHS-02A
pins: 1 P$1 (io), 2 P$2 (io), 3 P$4 (io), 4 P$3 (io)

## DIP-04SMD
designator S?, comment 4-Position DIP Switch    4-circuit DIP (dual inline package) switch. Commonly used to physcially set a circuit's behavior. SparkFun Products  Prototype Part
GateName_1: G$1; SymbolName_1: DIPSWITCH-04; DeviceName: SMD; DeviceSetName: DIP-04; LibraryName: SparkFun-Switches; Package: DIPSWITCH-04-SMD
footprint DIPSWITCH-04-SMD
pins: 1 1A (io), 2 2A (io), 3 3A (io), 4 4A (io), 5 4B (io), 6 3B (io), 7 2B (io), 8 1B (io)

## DIP-06
designator SW?
GateName_1: G$1; SymbolName_1: DIPSWITCH-06; DeviceSetName: DIP-06; PROD_ID: SWCH-13756; LibraryName: SparkFun-Switches; Package: DIPSWITCH-06-SMD
footprint DIPSWITCH-06-SMD
pins: 1 (io), 2 (io), 3 (io), 4 (io), 5 (io), 6 (io), 7 (io), 8 (io), 9 (io), 10 (io), 11 (io), 12 (io)

## DIP-08-PTH
designator S?, comment 8-Position DIP Switch    8-circuit DIP (dual inline package) switch. Commonly used to physcially set a circuit's behavior. SparkFun Products  DIP Switch - 8 Position (COM-08034)
SymbolName_1: SW_DIP-8; DeviceName: -PTH; DeviceSetName: DIP-08; PROD_ID: SWCH-12197; GateName_1: A; LibraryName: SparkFun-Switches; Package: DIPSWITCH-08; SF_SKU: COM-08034
footprint DIPSWITCH-08
pins: 1, 2, 3, 4, 5, 6, 7, 8, 9, 10, 11, 12, 13, 14, 15, 16

## ENCODER
designator S?, comment Rotary Encoder    Encoders rotate similarly to potentiometers, but theyâ€™re different from potentiometers in that an encoder has full rotation without limits. They output gray code so that you can tell how much and in which direction the encoder has been turned. SparkFun Products  Used on the https://www.sparkfun.com/products/11043 (COM-11043)
GateName_1: G$1; SymbolName_1: ENCODER-QUADRATURE; PROD_ID: RES-11299; LibraryName: SparkFun-Switches; DeviceSetName: ENCODER; Package: ENCODER-16MM-QUAD
footprint ENCODER-16MM-QUAD
pins: A (io), B (io), C (io)

## ENCODER-2LED
designator S?, comment Illuminated Rotary Encoder w/ 2 LEDs    Rotary encoders rotate similarly to potentiometers, but theyâ€™re different from potentiometers in that an encoder has full rotation without limits. They output gray code so that you can tell how much and in which direction the encoder has been turned.   This encoder has a red/green LED built-in, which shines through the encoder shaft. SparkFun Products  Rotary Encoder - Illuminated (Red/Green) (COM-10596)  SparkFun Rotary Encoder Breakout - Illuminated (RG/RGB) (BOB-11722)
GateName_1: G$1; SymbolName_1: ENCODER_LED_2-1; DeviceSetName: ENCODER-2LED; PROD_ID: COMP-11113; LibraryName: SparkFun-Switches; Package: ENCODER_LED_2; SF_SKU: COM-10596
footprint ENCODER_LED_2
pins: +G, +R, A (io), B (io), C (io), GND -, SW

## ENCODER-2LEDKIT
designator S?, comment Illuminated Rotary Encoder w/ 2 LEDs    Rotary encoders rotate similarly to potentiometers, but theyâ€™re different from potentiometers in that an encoder has full rotation without limits. They output gray code so that you can tell how much and in which direction the encoder has been turned.   This encoder has a red/green LED built-in, which shines through the encoder shaft. SparkFun Products  Rotary Encoder - Illuminated (Red/Green) (COM-10596)  SparkFun Rotary Encoder Breakout - Illuminated (RG/RGB) (BOB-11722)
GateName_1: G$1; SymbolName_1: ENCODER_LED_2-1; DeviceName: KIT; DeviceSetName: ENCODER-2LED; PROD_ID: COMP-11113; LibraryName: SparkFun-Switches; Package: ENCODER_LED_2_KIT; SF_SKU: COM-10596
footprint ENCODER_LED_2_KIT
pins: +G, +R, A (io), B (io), C (io), GND -, SW

## ENCODER-RGB-SWITCH-NO_NUT
designator S?, comment Illuminated Rotary Encoder w/ RGB LED and select switch    Encoders rotate similarly to potentiometers, but theyâ€™re different from potentiometers in that an encoder has full rotation without limits. They output gray code so that you can tell how much and in which direction the encoder has been turned.   This encoder includes an RGB LED and a push-down select switch.   Part #: Top Up EC12PLRGBSDVBF-D SparkFun Products  Rotary Encoder - Illuminated (RGB) (COM-10982)
GateName_1: S1; SymbolName_1: ENCODER_LED_3_CA; DeviceName: -NO_NUT; DeviceSetName: ENCODER-RGB-SWITCH; PROD_ID: RES-14168; LibraryName: SparkFun-Switches; Package: ENCODER_LED_3
footprint ENCODER_LED_3
pins: 1 -R, 2 -G, 3 SW, 4 -B, 5 +, A (io), B (io), C (io)

## ENCODER-RGB-SWITCH-WITH_NUT
designator S?, comment Illuminated Rotary Encoder w/ RGB LED and select switch    Encoders rotate similarly to potentiometers, but theyâ€™re different from potentiometers in that an encoder has full rotation without limits. They output gray code so that you can tell how much and in which direction the encoder has been turned.   This encoder includes an RGB LED and a push-down select switch.   Part #: Top Up EC12PLRGBSDVBF-D SparkFun Products  Rotary Encoder - Illuminated (RGB) (COM-10982)
GateName_1: S1; SymbolName_1: ENCODER_LED_3_CA; DeviceName: -WITH_NUT; DeviceSetName: ENCODER-RGB-SWITCH; PROD_ID: RES-15425; SF_SKU: COM-15141; LibraryName: SparkFun-Switches; Package: ENCODER_LED_3
footprint ENCODER_LED_3
pins: 1 -R, 2 -G, 3 SW, 4 -B, 5 +, A (io), B (io), C (io)

## ENCODER-RGB-SWITCHKIT
designator S?, comment Illuminated Rotary Encoder w/ RGB LED and select switch    Encoders rotate similarly to potentiometers, but theyâ€™re different from potentiometers in that an encoder has full rotation without limits. They output gray code so that you can tell how much and in which direction the encoder has been turned.   This encoder includes an RGB LED and a push-down select switch.   Part #: Top Up EC12PLRGBSDVBF-D SparkFun Products  Rotary Encoder - Illuminated (RGB) (COM-10982)
GateName_1: S1; SymbolName_1: ENCODER_LED_3_CA; DeviceName: KIT; DeviceSetName: ENCODER-RGB-SWITCH; PROD_ID: RES-10859; LibraryName: SparkFun-Switches; Package: ENCODER_LED_3_KIT; SF_SKU: COM-10982
footprint ENCODER_LED_3_KIT
pins: 1 -R, 2 -G, 3 SW, 4 -B, 5 +, A (io), B (io), C (io)

## ENCODER-SWITCH
designator S?, comment Rotary Encoder w/ Select Switch    Encoders rotate similarly to potentiometers, but theyâ€™re different from potentiometers in that an encoder has full rotation without limits. They output gray code so that you can tell how much and in which direction the encoder has been turned.   This encoder includes a push-down select switch built into the shaft. SparkFun Products  Rotary Encoder (COM-09117)
GateName_1: G$1; SymbolName_1: ROT_ENCODER; DeviceSetName: ENCODER-SWITCH; LibraryName: SparkFun-Switches; Package: ROTARY_ENC_PLAIN; SF_SKU: COM-09117
footprint ROTARY_ENC_PLAIN
pins: A (io), B (io), C (io), SW+ (io), SW- (io)

## JOYSTICK_MINI
designator S?, comment Small Tactile Joystick w/ Select Switch    A 5-way tactile switch allows for a joystick-like interface in a very small package.   Part #: 4UCON SF303GJ26 SparkFun Products  5-way Tactile Switch (COM-10063)  Used on SparkFun Block for IntelÂ® Edison - OLED (DEV-13035)  Used on CAN-BUS Shield (DEV-13262)
GateName_1: G$1; SymbolName_1: JOYSTICK_MINI; PROD_ID: SWCH-09905; LibraryName: SparkFun-Switches; DeviceSetName: JOYSTICK_MINI; Package: JOYSTICK_MINI; SF_SKU: COM-10063
footprint JOYSTICK_MINI
pins: A UP (io), B RIGHT (io), C LEFT (io), CTR CENT (io), D DOWN (io), GND (io)

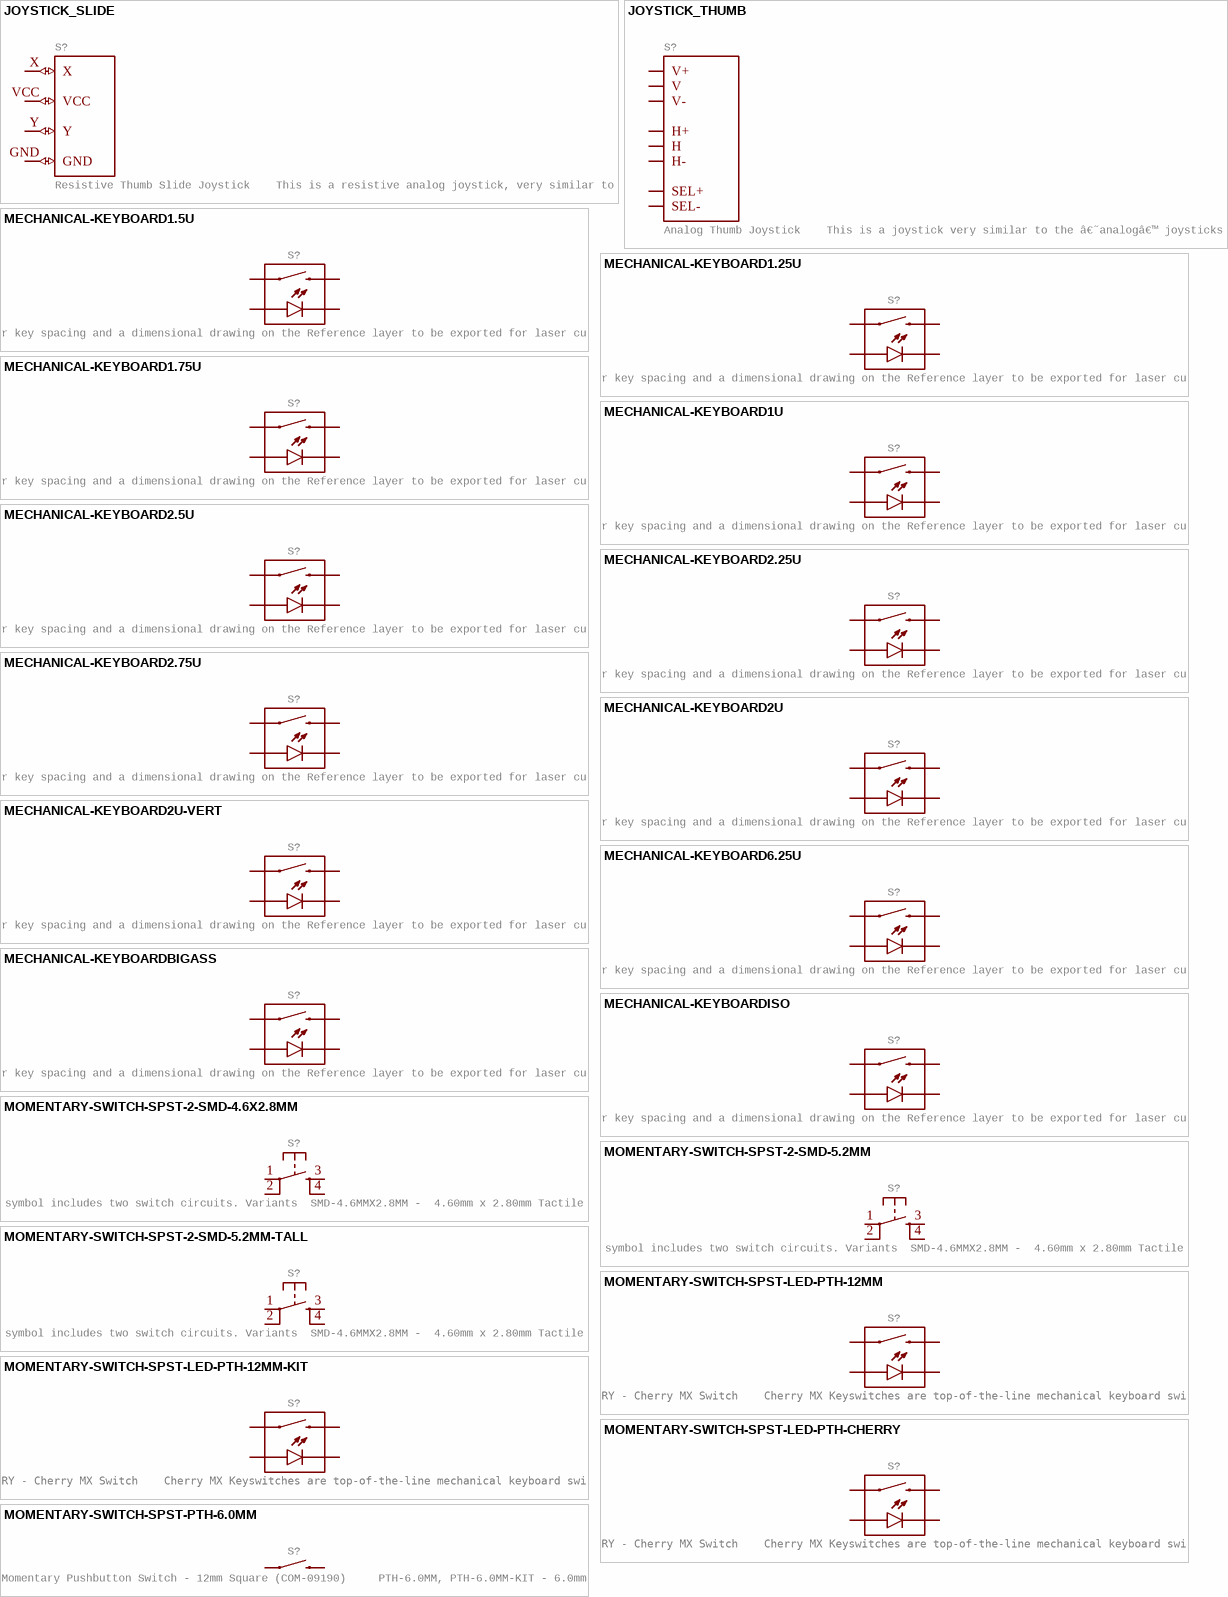
[diagram p33: symbols JOYSTICK_SLIDE to MOMENTARY-SWITCH-SPST-PTH-6.0MM]

## JOYSTICK_SLIDE
designator S?, comment Resistive Thumb Slide Joystick    This is a resistive analog joystick, very similar to those found on the PSP1000. These compact joysticks are different in that they have a very interesting â€˜slideâ€™ feeling. SparkFun Products  Thumb Slide Joystick (COM-09426)
GateName_1: G$1; SymbolName_1: JOYSTICK-PSP1000; DeviceSetName: JOYSTICK_SLIDE; LibraryName: SparkFun-Switches; Package: JOYSTICK-PSP1000; SF_SKU: COM-09426
footprint JOYSTICK-PSP1000
pins: GND (io), VCC (io), X (io), Y (io)

## JOYSTICK_THUMB
designator S?, comment Analog Thumb Joystick    This is a joystick very similar to the â€˜analogâ€™ joysticks on PS2 (PlayStation 2) controllers. Directional movements are simply two potentiometers - one for each axis. Pots are ~10k each. This joystick also has a select button that is actuated when the joystick is pressed down. SparkFun Products  Thumb Joystick (COM-09032)  SparkFun Thumb Joystick Breakout (BOB-09110)  SparkFun Joystick Shield Kit (DEV-09760)
GateName_1: G$1; DeviceSetName: JOYSTICK_THUMB; PROD_ID: COMP-09744; SymbolName_1: JOYSTICK; LibraryName: SparkFun-Switches; Package: JOYSTICK; SF_SKU: COM-09032
footprint JOYSTICK
pins: B1A SEL+ (io), B2A SEL- (io), H1 H+ (io), H2 H (io), H3 H- (io), V1 V+ (io), V2 V (io), V3 V- (io)

## MECHANICAL-KEYBOARD1.5U
designator S?, comment Mechanical Keyboard Spacings for Cherry-MX    Cherry-MX w/ LED switch footprints. Each package variant contains a bounding box on the tDocu layer for proper key spacing and a dimensional drawing on the Reference layer to be exported for laser cut mounting plates.   Footprints are off-center so that the origin lies on the lower left corner of the key-spacing. This allows for most common layouts to be easily acheived on a grid spacing of 0.1875" Variants  1U through 1.75U in .25U steps Centered switch cutout in SwitchPlate layer with no stabilizers  2U through 2.75U in .25U steps Centered switch cutout in SwitchPlate layer with Cherry+Costar stabilizer holes  6.25U Common spacebar size Centered switch cutout in SwitchPlate layer with Cherry+Costar stabilizer holes  "Big Ass" Enter ANSI 104 "Big Ass" Enter Key layout  ISO Enter ISO style Enter Key layout
GateName_1: G$1; SymbolName_1: SWITCH-MOMENTARY-LED; DeviceName: 1.5U; DeviceSetName: MECHANICAL-KEYBOARD; LibraryName: SparkFun-Switches; Package: CHERRY-MX-LED-1.5U
footprint CHERRY-MX-LED-1.5U
pins: A, K C, S1 1, S2 2

## MECHANICAL-KEYBOARD1.25U
designator S?, comment Mechanical Keyboard Spacings for Cherry-MX    Cherry-MX w/ LED switch footprints. Each package variant contains a bounding box on the tDocu layer for proper key spacing and a dimensional drawing on the Reference layer to be exported for laser cut mounting plates.   Footprints are off-center so that the origin lies on the lower left corner of the key-spacing. This allows for most common layouts to be easily acheived on a grid spacing of 0.1875" Variants  1U through 1.75U in .25U steps Centered switch cutout in SwitchPlate layer with no stabilizers  2U through 2.75U in .25U steps Centered switch cutout in SwitchPlate layer with Cherry+Costar stabilizer holes  6.25U Common spacebar size Centered switch cutout in SwitchPlate layer with Cherry+Costar stabilizer holes  "Big Ass" Enter ANSI 104 "Big Ass" Enter Key layout  ISO Enter ISO style Enter Key layout
GateName_1: G$1; SymbolName_1: SWITCH-MOMENTARY-LED; DeviceName: 1.25U; DeviceSetName: MECHANICAL-KEYBOARD; LibraryName: SparkFun-Switches; Package: CHERRY-MX-LED-1.25U
footprint CHERRY-MX-LED-1.25U
pins: A, K C, S1 1, S2 2

## MECHANICAL-KEYBOARD1.75U
designator S?, comment Mechanical Keyboard Spacings for Cherry-MX    Cherry-MX w/ LED switch footprints. Each package variant contains a bounding box on the tDocu layer for proper key spacing and a dimensional drawing on the Reference layer to be exported for laser cut mounting plates.   Footprints are off-center so that the origin lies on the lower left corner of the key-spacing. This allows for most common layouts to be easily acheived on a grid spacing of 0.1875" Variants  1U through 1.75U in .25U steps Centered switch cutout in SwitchPlate layer with no stabilizers  2U through 2.75U in .25U steps Centered switch cutout in SwitchPlate layer with Cherry+Costar stabilizer holes  6.25U Common spacebar size Centered switch cutout in SwitchPlate layer with Cherry+Costar stabilizer holes  "Big Ass" Enter ANSI 104 "Big Ass" Enter Key layout  ISO Enter ISO style Enter Key layout
GateName_1: G$1; SymbolName_1: SWITCH-MOMENTARY-LED; DeviceSetName: MECHANICAL-KEYBOARD; DeviceName: 1.75U; LibraryName: SparkFun-Switches; Package: CHERRY-MX-LED-1.75U
footprint CHERRY-MX-LED-1.75U
pins: A, K C, S1 1, S2 2

## MECHANICAL-KEYBOARD1U
designator S?, comment Mechanical Keyboard Spacings for Cherry-MX    Cherry-MX w/ LED switch footprints. Each package variant contains a bounding box on the tDocu layer for proper key spacing and a dimensional drawing on the Reference layer to be exported for laser cut mounting plates.   Footprints are off-center so that the origin lies on the lower left corner of the key-spacing. This allows for most common layouts to be easily acheived on a grid spacing of 0.1875" Variants  1U through 1.75U in .25U steps Centered switch cutout in SwitchPlate layer with no stabilizers  2U through 2.75U in .25U steps Centered switch cutout in SwitchPlate layer with Cherry+Costar stabilizer holes  6.25U Common spacebar size Centered switch cutout in SwitchPlate layer with Cherry+Costar stabilizer holes  "Big Ass" Enter ANSI 104 "Big Ass" Enter Key layout  ISO Enter ISO style Enter Key layout
GateName_1: G$1; SymbolName_1: SWITCH-MOMENTARY-LED; DeviceSetName: MECHANICAL-KEYBOARD; DeviceName: 1U; LibraryName: SparkFun-Switches; Package: CHERRY-MX-LED-1U
footprint CHERRY-MX-LED-1U
pins: A, K C, S1 1, S2 2

## MECHANICAL-KEYBOARD2.5U
designator S?, comment Mechanical Keyboard Spacings for Cherry-MX    Cherry-MX w/ LED switch footprints. Each package variant contains a bounding box on the tDocu layer for proper key spacing and a dimensional drawing on the Reference layer to be exported for laser cut mounting plates.   Footprints are off-center so that the origin lies on the lower left corner of the key-spacing. This allows for most common layouts to be easily acheived on a grid spacing of 0.1875" Variants  1U through 1.75U in .25U steps Centered switch cutout in SwitchPlate layer with no stabilizers  2U through 2.75U in .25U steps Centered switch cutout in SwitchPlate layer with Cherry+Costar stabilizer holes  6.25U Common spacebar size Centered switch cutout in SwitchPlate layer with Cherry+Costar stabilizer holes  "Big Ass" Enter ANSI 104 "Big Ass" Enter Key layout  ISO Enter ISO style Enter Key layout
GateName_1: G$1; SymbolName_1: SWITCH-MOMENTARY-LED; DeviceName: 2.5U; DeviceSetName: MECHANICAL-KEYBOARD; LibraryName: SparkFun-Switches; Package: CHERRY-MX-LED-1X2.5U
footprint CHERRY-MX-LED-1X2.5U
pins: A, K C, S1 1, S2 2

## MECHANICAL-KEYBOARD2.25U
designator S?, comment Mechanical Keyboard Spacings for Cherry-MX    Cherry-MX w/ LED switch footprints. Each package variant contains a bounding box on the tDocu layer for proper key spacing and a dimensional drawing on the Reference layer to be exported for laser cut mounting plates.   Footprints are off-center so that the origin lies on the lower left corner of the key-spacing. This allows for most common layouts to be easily acheived on a grid spacing of 0.1875" Variants  1U through 1.75U in .25U steps Centered switch cutout in SwitchPlate layer with no stabilizers  2U through 2.75U in .25U steps Centered switch cutout in SwitchPlate layer with Cherry+Costar stabilizer holes  6.25U Common spacebar size Centered switch cutout in SwitchPlate layer with Cherry+Costar stabilizer holes  "Big Ass" Enter ANSI 104 "Big Ass" Enter Key layout  ISO Enter ISO style Enter Key layout
GateName_1: G$1; SymbolName_1: SWITCH-MOMENTARY-LED; DeviceName: 2.25U; DeviceSetName: MECHANICAL-KEYBOARD; LibraryName: SparkFun-Switches; Package: CHERRY-MX-LED-1X2.25
footprint CHERRY-MX-LED-1X2.25
pins: A, K C, S1 1, S2 2

## MECHANICAL-KEYBOARD2.75U
designator S?, comment Mechanical Keyboard Spacings for Cherry-MX    Cherry-MX w/ LED switch footprints. Each package variant contains a bounding box on the tDocu layer for proper key spacing and a dimensional drawing on the Reference layer to be exported for laser cut mounting plates.   Footprints are off-center so that the origin lies on the lower left corner of the key-spacing. This allows for most common layouts to be easily acheived on a grid spacing of 0.1875" Variants  1U through 1.75U in .25U steps Centered switch cutout in SwitchPlate layer with no stabilizers  2U through 2.75U in .25U steps Centered switch cutout in SwitchPlate layer with Cherry+Costar stabilizer holes  6.25U Common spacebar size Centered switch cutout in SwitchPlate layer with Cherry+Costar stabilizer holes  "Big Ass" Enter ANSI 104 "Big Ass" Enter Key layout  ISO Enter ISO style Enter Key layout
GateName_1: G$1; SymbolName_1: SWITCH-MOMENTARY-LED; DeviceSetName: MECHANICAL-KEYBOARD; DeviceName: 2.75U; LibraryName: SparkFun-Switches; Package: CHERRY-MX-LED-1X2.75
footprint CHERRY-MX-LED-1X2.75
pins: A, K C, S1 1, S2 2

## MECHANICAL-KEYBOARD2U
designator S?, comment Mechanical Keyboard Spacings for Cherry-MX    Cherry-MX w/ LED switch footprints. Each package variant contains a bounding box on the tDocu layer for proper key spacing and a dimensional drawing on the Reference layer to be exported for laser cut mounting plates.   Footprints are off-center so that the origin lies on the lower left corner of the key-spacing. This allows for most common layouts to be easily acheived on a grid spacing of 0.1875" Variants  1U through 1.75U in .25U steps Centered switch cutout in SwitchPlate layer with no stabilizers  2U through 2.75U in .25U steps Centered switch cutout in SwitchPlate layer with Cherry+Costar stabilizer holes  6.25U Common spacebar size Centered switch cutout in SwitchPlate layer with Cherry+Costar stabilizer holes  "Big Ass" Enter ANSI 104 "Big Ass" Enter Key layout  ISO Enter ISO style Enter Key layout
GateName_1: G$1; SymbolName_1: SWITCH-MOMENTARY-LED; DeviceSetName: MECHANICAL-KEYBOARD; DeviceName: 2U; LibraryName: SparkFun-Switches; Package: CHERRY-MX-LED-1X2U
footprint CHERRY-MX-LED-1X2U
pins: A, K C, S1 1, S2 2

## MECHANICAL-KEYBOARD2U-VERT
designator S?, comment Mechanical Keyboard Spacings for Cherry-MX    Cherry-MX w/ LED switch footprints. Each package variant contains a bounding box on the tDocu layer for proper key spacing and a dimensional drawing on the Reference layer to be exported for laser cut mounting plates.   Footprints are off-center so that the origin lies on the lower left corner of the key-spacing. This allows for most common layouts to be easily acheived on a grid spacing of 0.1875" Variants  1U through 1.75U in .25U steps Centered switch cutout in SwitchPlate layer with no stabilizers  2U through 2.75U in .25U steps Centered switch cutout in SwitchPlate layer with Cherry+Costar stabilizer holes  6.25U Common spacebar size Centered switch cutout in SwitchPlate layer with Cherry+Costar stabilizer holes  "Big Ass" Enter ANSI 104 "Big Ass" Enter Key layout  ISO Enter ISO style Enter Key layout
GateName_1: G$1; SymbolName_1: SWITCH-MOMENTARY-LED; DeviceName: 2U-VERT; DeviceSetName: MECHANICAL-KEYBOARD; LibraryName: SparkFun-Switches; Package: CHERRY-MX-LED-2X1U
footprint CHERRY-MX-LED-2X1U
pins: A, K C, S1 1, S2 2

## MECHANICAL-KEYBOARD6.25U
designator S?, comment Mechanical Keyboard Spacings for Cherry-MX    Cherry-MX w/ LED switch footprints. Each package variant contains a bounding box on the tDocu layer for proper key spacing and a dimensional drawing on the Reference layer to be exported for laser cut mounting plates.   Footprints are off-center so that the origin lies on the lower left corner of the key-spacing. This allows for most common layouts to be easily acheived on a grid spacing of 0.1875" Variants  1U through 1.75U in .25U steps Centered switch cutout in SwitchPlate layer with no stabilizers  2U through 2.75U in .25U steps Centered switch cutout in SwitchPlate layer with Cherry+Costar stabilizer holes  6.25U Common spacebar size Centered switch cutout in SwitchPlate layer with Cherry+Costar stabilizer holes  "Big Ass" Enter ANSI 104 "Big Ass" Enter Key layout  ISO Enter ISO style Enter Key layout
GateName_1: G$1; SymbolName_1: SWITCH-MOMENTARY-LED; DeviceSetName: MECHANICAL-KEYBOARD; DeviceName: 6.25U; LibraryName: SparkFun-Switches; Package: CHERRY-MX-LED-1X6.25
footprint CHERRY-MX-LED-1X6.25
pins: A, K C, S1 1, S2 2

## MECHANICAL-KEYBOARDBIGASS
designator S?, comment Mechanical Keyboard Spacings for Cherry-MX    Cherry-MX w/ LED switch footprints. Each package variant contains a bounding box on the tDocu layer for proper key spacing and a dimensional drawing on the Reference layer to be exported for laser cut mounting plates.   Footprints are off-center so that the origin lies on the lower left corner of the key-spacing. This allows for most common layouts to be easily acheived on a grid spacing of 0.1875" Variants  1U through 1.75U in .25U steps Centered switch cutout in SwitchPlate layer with no stabilizers  2U through 2.75U in .25U steps Centered switch cutout in SwitchPlate layer with Cherry+Costar stabilizer holes  6.25U Common spacebar size Centered switch cutout in SwitchPlate layer with Cherry+Costar stabilizer holes  "Big Ass" Enter ANSI 104 "Big Ass" Enter Key layout  ISO Enter ISO style Enter Key layout
GateName_1: G$1; SymbolName_1: SWITCH-MOMENTARY-LED; DeviceName: BIGASS; DeviceSetName: MECHANICAL-KEYBOARD; LibraryName: SparkFun-Switches; Package: CHERRY-MX-LED-BIG-ASS-ENTER
footprint CHERRY-MX-LED-BIG-ASS-ENTER
pins: A, K C, S1 1, S2 2

## MECHANICAL-KEYBOARDISO
designator S?, comment Mechanical Keyboard Spacings for Cherry-MX    Cherry-MX w/ LED switch footprints. Each package variant contains a bounding box on the tDocu layer for proper key spacing and a dimensional drawing on the Reference layer to be exported for laser cut mounting plates.   Footprints are off-center so that the origin lies on the lower left corner of the key-spacing. This allows for most common layouts to be easily acheived on a grid spacing of 0.1875" Variants  1U through 1.75U in .25U steps Centered switch cutout in SwitchPlate layer with no stabilizers  2U through 2.75U in .25U steps Centered switch cutout in SwitchPlate layer with Cherry+Costar stabilizer holes  6.25U Common spacebar size Centered switch cutout in SwitchPlate layer with Cherry+Costar stabilizer holes  "Big Ass" Enter ANSI 104 "Big Ass" Enter Key layout  ISO Enter ISO style Enter Key layout
GateName_1: G$1; SymbolName_1: SWITCH-MOMENTARY-LED; DeviceSetName: MECHANICAL-KEYBOARD; DeviceName: ISO; LibraryName: SparkFun-Switches; Package: CHERRY-MX-LED-ISO-ENTER
footprint CHERRY-MX-LED-ISO-ENTER
pins: A, K C, S1 1, S2 2

## MOMENTARY-SWITCH-SPST-2-SMD-4.6X2.8MM
designator S?, comment Momentary Switch (Pushbutton) - SPST - Two Circuits    Normally-open (NO) SPST momentary switches (buttons, pushbuttons). Schematic symbol includes two switch circuits. Variants  SMD-4.6MMX2.8MM -  4.60mm x 2.80mm Tactile Momentary Button Switch  - Used on SparkFun Pro Micro - RP2040  SMD-5.2MM - Mini Pushbutton Switch - SMD - Used on Arduino Pro Mini
GateName_1: G$1; SymbolName_1: SWITCH-MOMENTARY; DeviceName: -SMD-4.6X2.8MM; DeviceSetName: MOMENTARY-SWITCH-SPST-2; PROD_ID: SWCH-15606; LibraryName: SparkFun-Switches; Package: TACTILE_SWITCH_SMD_4.6X2.8MM
footprint TACTILE_SWITCH_SMD_4.6X2.8MM
pins: 1, 2, 3, 4

## MOMENTARY-SWITCH-SPST-2-SMD-5.2MM
designator S?, comment Momentary Switch (Pushbutton) - SPST - Two Circuits    Normally-open (NO) SPST momentary switches (buttons, pushbuttons). Schematic symbol includes two switch circuits. Variants  SMD-4.6MMX2.8MM -  4.60mm x 2.80mm Tactile Momentary Button Switch  - Used on SparkFun Pro Micro - RP2040  SMD-5.2MM - Mini Pushbutton Switch - SMD - Used on Arduino Pro Mini
GateName_1: G$1; SymbolName_1: SWITCH-MOMENTARY; DeviceName: -SMD-5.2MM; DeviceSetName: MOMENTARY-SWITCH-SPST-2; PROD_ID: SWCH-08247; SF_SKU: COM-08720; LibraryName: SparkFun-Switches; Package: TACTILE_SWITCH_SMD_5.2MM
footprint TACTILE_SWITCH_SMD_5.2MM
pins: 1, 2, 3, 4

## MOMENTARY-SWITCH-SPST-2-SMD-5.2MM-TALL
designator S?, comment Momentary Switch (Pushbutton) - SPST - Two Circuits    Normally-open (NO) SPST momentary switches (buttons, pushbuttons). Schematic symbol includes two switch circuits. Variants  SMD-4.6MMX2.8MM -  4.60mm x 2.80mm Tactile Momentary Button Switch  - Used on SparkFun Pro Micro - RP2040  SMD-5.2MM - Mini Pushbutton Switch - SMD - Used on Arduino Pro Mini
GateName_1: G$1; SymbolName_1: SWITCH-MOMENTARY; DeviceName: -SMD-5.2MM-TALL; DeviceSetName: MOMENTARY-SWITCH-SPST-2; PROD_ID: SWCH-14139; LibraryName: SparkFun-Switches; Package: TACTILE_SWITCH_SMD_5.2MM
footprint TACTILE_SWITCH_SMD_5.2MM
pins: 1, 2, 3, 4

## MOMENTARY-SWITCH-SPST-LED-PTH-12MM
designator S?, comment Momentary Switch (Pushbutton) - SPST - w/ LED    Normally-open (NO) SPST momentary switches (buttons, pushbuttons), with a built-in LED. Variants  PTH-CHERRY - Cherry MX Switch    Cherry MX Keyswitches are top-of-the-line mechanical keyboard switches. Theyâ€™re satisfyingly â€œclickyâ€, reliable up to tens-of-millions of key presses, and a standard in gaming and programming keyboards across the globe. This â€˜blueâ€™ version Cherry MX Switch is favored by most due to its secondary internal actuator making it less likely to â€œdouble-tap.â€ If you are looking for a noticeably audible and high-quality key switch, this is the perfect option for you! Cherry MX Switch (COM-13834)  Cherry MX Switch Breakout (BOB-13773)     PTH-12MM and PTH-12MM-KIT - 12mm Illuminated LED    KIT variant is for soldering kits. There is no tStop (covering up the top side of the pads with mask). This helps the beginner see which side they should be soldering too. LED Tactile Button Breakout (BOB-10467)  LED Tactile Button - Red (COM-10442)  LED Tactile Button - Blue (COM-10443)  LED Tactile Button - Green (COM-10440)  LED Tactile Button - Orange (COM-10441)  LED Tactile Button - White (COM-10439)
GateName_1: G$1; SymbolName_1: SWITCH-MOMENTARY-LED; DeviceName: -PTH-12MM; DeviceSetName: MOMENTARY-SWITCH-SPST-LED; PROD_ID: SWCH-11758; LibraryName: SparkFun-Switches; Package: TACTILE_SWITCH_LED_PTH_12MM; SF_SKU: COM-10442
footprint TACTILE_SWITCH_LED_PTH_12MM
pins: 2, 4 1, A, C